# Altium schematic symbol library iuh-thuc-hanh.SchLib: 167 symbols
Pins are listed as number, name and electrical type; pins without a type are passive.

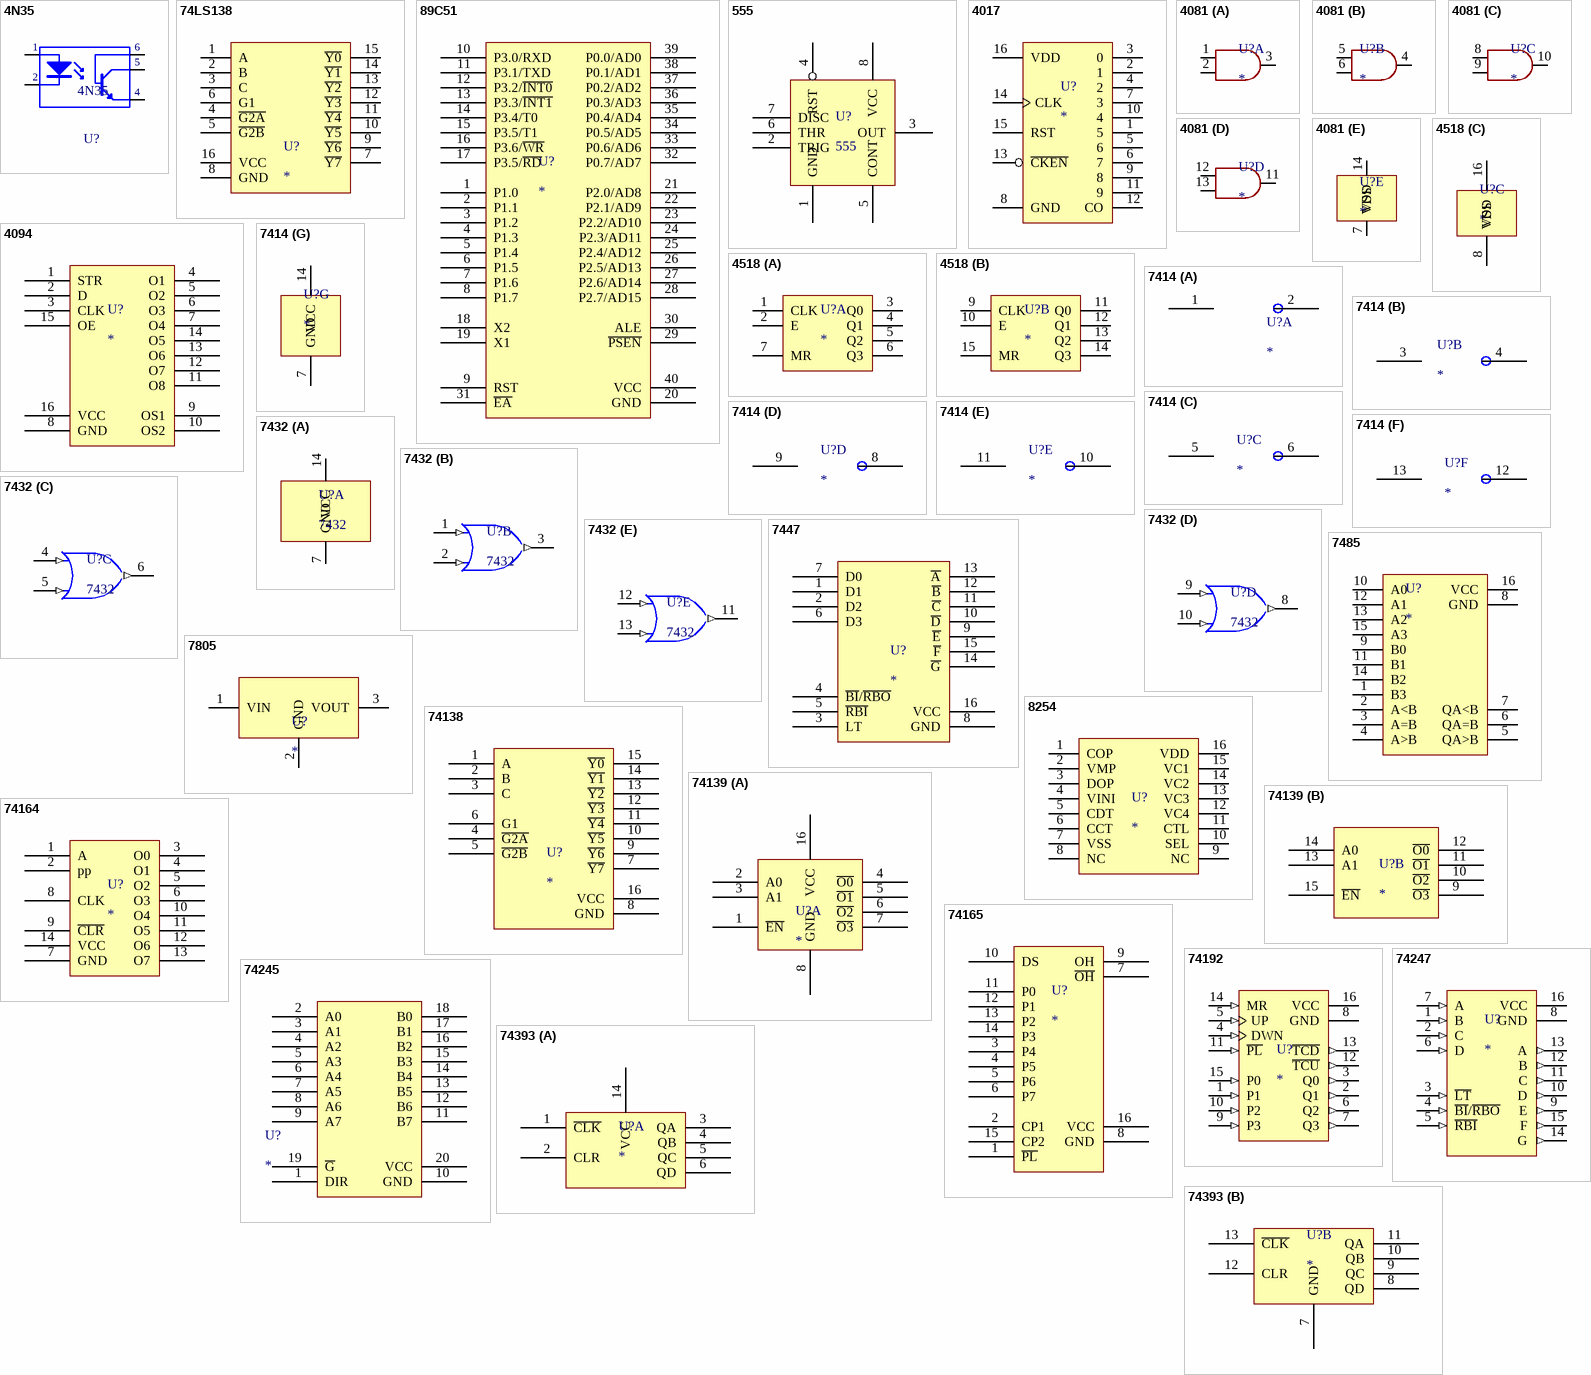
[diagram p0: symbols 4N35 to 74393]

## 4N35
designator U?
Single Opto; Value: MOC3021
footprint DIP6
footprint SO6
pins: 1 A "Anode", 2 K "Cathode", 4 E "Emitter", 5 C "Collector", 6 C "Collector"

## 74LS138
designator U?
footprint DIP16 (16 PIN, W 300mil, Pin to pin 100mil)
pins: 1 A, 2 B, 3 C, 4 ~{G2A}, 5 ~{G2B}, 6 G1, 7 ~{Y7}, 8 GND, 9 ~{Y6}, 10 ~{Y5}, 11 ~{Y4}, 12 ~{Y3}, 13 ~{Y2}, 14 ~{Y1}, 15 ~{Y0}, 16 VCC

## 89C51
designator U?
footprint DIP40/W0.6 (40 PIN, W 600mil, Pin to pin 100mil)
pins: 1 P1.0, 2 P1.1, 3 P1.2, 4 P1.3, 5 P1.4, 6 P1.5, 7 P1.6, 8 P1.7, 9 RST, 10 P3.0/RXD, 11 P3.1/TXD, 12 P3.2/~{INT0}, 13 P3.3/~{INT1}, 14 P3.4/T0, 15 P3.5/T1, 16 P3.6/~{WR}, 17 P3.5/~{RD}, 18 X2, 19 X1, 20 GND, 21 P2.0/AD8, 22 P2.1/AD9, 23 P2.2/AD10, 24 P2.3/AD11, 25 P2.4/AD12, 26 P2.5/AD13, 27 P2.6/AD14, 28 P2.7/AD15, 29 ~{PSEN}, 30 ALE, 31 ~{EA}, 32 P0.7/AD7, 33 P0.6/AD6, 34 P0.5/AD5, 35 P0.4/AD4, 36 P0.3/AD3, 37 P0.2/AD2, 38 P0.1/AD1, 39 P0.0/AD0, 40 VCC

## 555
designator U?
LM555; Manufacturer: National Semiconductor Corporation; ComponentLink1Description: Datasheet; ComponentLink1URL: https://datasheet.ciiva.com/19457/840579-19457377.pdf?src-supplier=Jameco
footprint DIP8 (8 PIN, Width 300mil, Pin to pin 100mil)
pins: 1 GND, 2 TRIG, 3 OUT, 4 RST, 5 CONT, 6 THR, 7 DISC, 8 VCC

## 4017
designator U?
footprint DIP16 (16 PIN, W 300mil, Pin to pin 100mil)
footprint SO16 (SOIC, 16-Leads, Body 9.90x3.91mm, Pitch 1.27mm, IPC Medium Density)
pins: 1 5, 2 1, 3 0, 4 2, 5 6, 6 7, 7 3, 8 GND, 9 8, 10 4, 11 9, 12 CO, 13 ~{CKEN}, 14 CLK, 15 RST, 16 VDD

## 4081
designator U?
AND LOGIC
footprint DIP14 (W.300/L.900)
part A pins: 1, 2, 3
part B pins: 4, 5, 6
part C pins: 8, 9, 10
part D pins: 11, 12, 13
part E pins: 7 VSS, 14 VDD

## 4094
designator U?
footprint DIP16 (16 PIN, W 300mil, Pin to pin 100mil)
pins: 1 STR, 2 D, 3 CLK, 4 O1, 5 O2, 6 O3, 7 O4, 8 GND, 9 OS1, 10 OS2, 11 O8, 12 O7, 13 O6, 14 O5, 15 OE, 16 VCC

## 4518
designator U?
footprint DIP16 (16 PIN, W 300mil, Pin to pin 100mil)
part A pins: 1 CLK, 2 E, 3 Q0, 4 Q1, 5 Q2, 6 Q3, 7 MR
part B pins: 9 CLK, 10 E, 11 Q0, 12 Q1, 13 Q2, 14 Q3, 15 MR
part C pins: 8 VSS, 16 VDD

## 7414
designator U?
footprint DIP14 (W.300/L.900)
part A pins: 1, 2
part B pins: 3, 4
part C pins: 5, 6
part D pins: 8, 9
part E pins: 10, 11
part F pins: 12, 13
part G pins: 7 GND, 14 VCC

## 7432
designator U?
OR logic
footprint DIP14 (W.300/L.900)
part A pins: 7 GND, 14 VCC
part B pins: 1 A (in), 2 B (in), 3 Y (out)
part C pins: 4 A (in), 5 B (in), 6 Y (out)
part D pins: 8 Y (out), 9 A (in), 10 B (in)
part E pins: 11 Y (out), 12 A (in), 13 B (in)

## 7447
designator U?
footprint DIP16 (16 PIN, W 300mil, Pin to pin 100mil)
pins: 1 D1, 2 D2, 3 LT, 4 ~{BI}/~{RBO}, 5 ~{RBI}, 6 D3, 7 D0, 8 GND, 9 ~{E}, 10 ~{D}, 11 ~{C}, 12 ~{B}, 13 ~{A}, 14 ~{G}, 15 ~{F}, 16 VCC

## 7485
designator U?
COMPARE IC
footprint DIP16 (16 PIN, W 300mil, Pin to pin 100mil)
pins: 1 B3, 2 A<B, 3 A=B, 4 A>B, 5 QA>B, 6 QA=B, 7 QA<B, 8 GND, 9 B0, 10 A0, 11 B1, 12 A1, 13 A2, 14 B2, 15 A3, 16 VCC

## 7805
designator U?
footprint TO220-123 (TO-220 - 1-2-3)
pins: 1 VIN, 2 GND, 3 VOUT

## 8254
designator U?
footprint S-8254
pins: 1 COP, 2 VMP, 3 DOP, 4 VINI, 5 CDT, 6 CCT, 7 VSS, 8 NC, 9 NC, 10 SEL, 11 CTL, 12 VC4, 13 VC3, 14 VC2, 15 VC1, 16 VDD

## 74138
designator U?
footprint DIP16 (16 PIN, W 300mil, Pin to pin 100mil)
pins: 1 A, 2 B, 3 C, 4 ~{G2A}, 5 ~{G2B}, 6 G1, 7 ~{Y7}, 8 GND, 9 ~{Y6}, 10 ~{Y5}, 11 ~{Y4}, 12 ~{Y3}, 13 ~{Y2}, 14 ~{Y1}, 15 ~{Y0}, 16 VCC

## 74139
designator U?
footprint DIP16 (16 PIN, W 300mil, Pin to pin 100mil)
part A pins: 1 ~{EN}, 2 A0, 3 A1, 4 ~{O0}, 5 ~{O1}, 6 ~{O2}, 7 ~{O3}, 8 GND, 16 VCC
part B pins: 9 ~{O3}, 10 ~{O2}, 11 ~{O1}, 12 ~{O0}, 13 A1, 14 A0, 15 ~{EN}

## 74164
designator U?
footprint DIP14 (W.300/L.900)
pins: 1 A, 2 pp, 3 O0, 4 O1, 5 O2, 6 O3, 7 GND, 8 CLK, 9 ~{CLR}, 10 O4, 11 O5, 12 O6, 13 O7, 14 VCC

## 74165
designator U?
footprint DIP16 (16 PIN, W 300mil, Pin to pin 100mil)
pins: 1 ~{PL}, 2 CP1, 3 P4, 4 P5, 5 P6, 6 P7, 7 ~{OH}, 8 GND, 9 OH, 10 DS, 11 P0, 12 P1, 13 P2, 14 P3, 15 CP2, 16 VCC

## 74192
designator U?
ComponentLink1Description: Datasheet; ComponentLink1URL: https://pdf1.alldatasheet.com/datasheet-pdf/view/5681/MOTOROLA/74LS192.html
footprint DIP16 (16 PIN, W 300mil, Pin to pin 100mil)
pins: 1 P1 (in), 2 Q1 (out), 3 Q0 (out), 4 DWN (in), 5 UP (in), 6 Q2 (out), 7 Q3 (out), 8 GND (power), 9 P3 (in), 10 P2 (in), 11 ~{PL} (in), 12 ~{TCU} (out), 13 ~{TCD} (out), 14 MR (in), 15 P0 (in), 16 VCC (oe)

## 74245
designator U?
footprint DIP20 (DIP 20, 20 PIN, W 300mil, Pin to pin 100mil)
pins: 1 DIR, 2 A0, 3 A1, 4 A2, 5 A3, 6 A4, 7 A5, 8 A6, 9 A7, 10 GND, 11 B7, 12 B6, 13 B5, 14 B4, 15 B3, 16 B2, 17 B1, 18 B0, 19 ~{G}, 20 VCC

## 74247
designator U?
footprint DIP16 (16 PIN, W 300mil, Pin to pin 100mil)
pins: 1 B (in), 2 C (in), 3 ~{LT} (in), 4 ~{BI}/~{RBO} (in), 5 ~{RBI} (in), 6 D (in), 7 A (in), 8 GND, 9 E (out), 10 D (out), 11 C (out), 12 B (out), 13 A (out), 14 G (out), 15 F (out), 16 VCC

## 74393
designator U?
footprint DIP14 (W.300/L.900)
part A pins: 1 ~{CLK}, 2 CLR, 3 QA, 4 QB, 5 QC, 6 QD, 14 VCC
part B pins: 7 GND, 8 QD, 9 QC, 10 QB, 11 QA, 12 CLR, 13 ~{CLK}

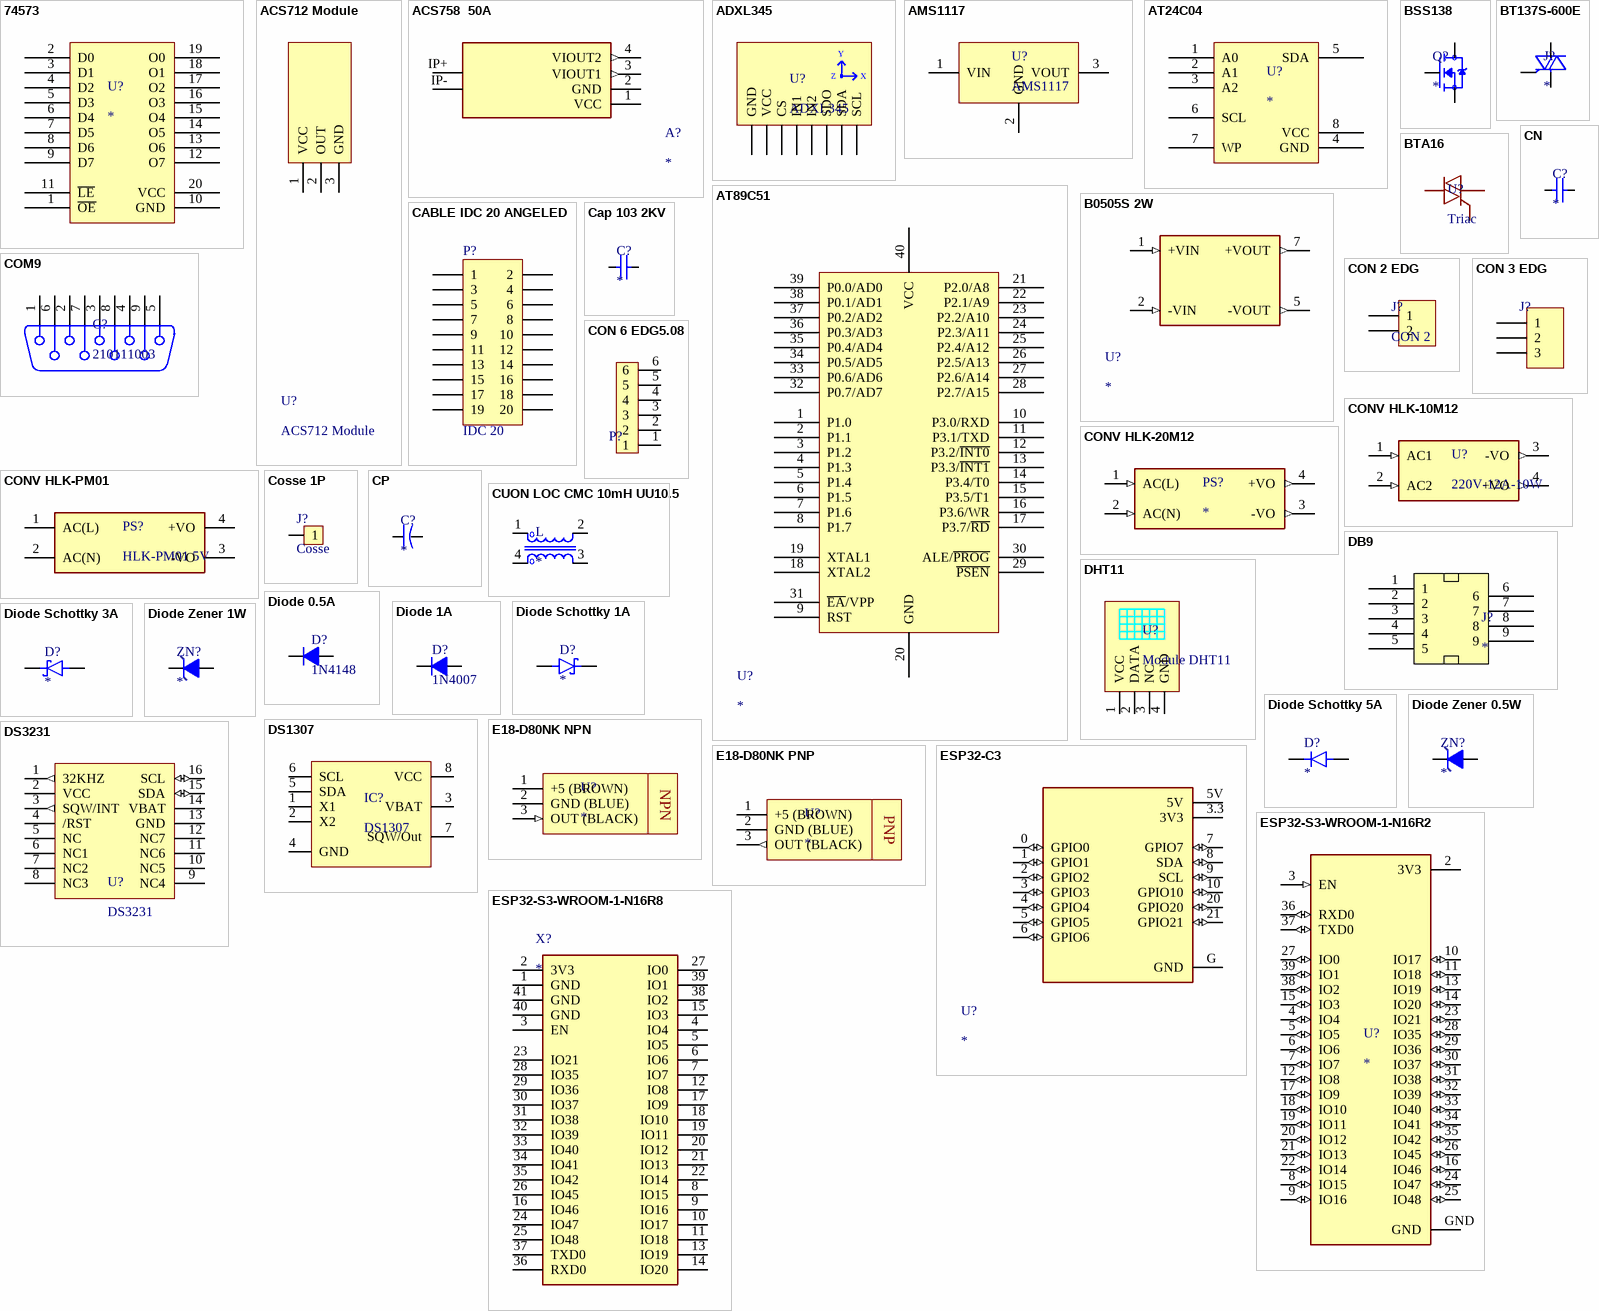
[diagram p1: symbols 74573 to ESP32-S3-WROOM-1-N16R8]

## 74573
designator U?
footprint DIP20 (DIP 20, 20 PIN, W 300mil, Pin to pin 100mil)
pins: 1 ~{OE}, 2 D0, 3 D1, 4 D2, 5 D3, 6 D4, 7 D5, 8 D6, 9 D7, 10 GND, 11 ~{LE}, 12 O7, 13 O6, 14 O5, 15 O4, 16 O3, 17 O2, 18 O1, 19 O0, 20 VCC

## ACS712 Module
designator U?
footprint ACS712 Module
pins: 1 VCC, 2 OUT, 3 GND

## ACS758  50A
designator A?
Current Sensor 50A 1 Channel Hall Effect, Open Loop Unidirectional 5-CB Formed Leads, PFF; MF: Allegro MicroSystems LLC; MP: ACS758LCB-100U-PFF-T; SnapEDA_Link: https://www.snapeda.com/parts/ACS758LCB-100U-PFF-T/Allegro+MicroSystems+LLC/view-part/?ref=snap; Package: 5-CB-5 Allegro MicroSystems LLC; Value: *; Check_prices: https://www.snapeda.com/parts/ACS758LCB-100U-PFF-T/Allegro+MicroSystems+LLC/view-part/?ref=eda
footprint ACS758LCB  50A
pins: 1 VCC (power), 2 GND (power), 3 VIOUT1 (out), 4 VIOUT2 (out), IP+ (power), IP- (power)

## ADXL345
designator U?
Module Cam bien gia toc
pins: 1 GND, 2 VCC, 3 CS, 4 IN1, 5 IN2, 6 SDO, 7 SDA, 8 SCL
text: Y; Z; X

## AMS1117
designator U?
footprint AMS1117-3v3
pins: 1 VIN, 2 GND, 3 VOUT

## AT24C04
designator U?
pins: 1 A0, 2 A1, 3 A2, 4 GND, 5 SDA, 6 SCL, 7 WP, 8 VCC

## AT89C51
designator U?
pins: 1 P1.0, 2 P1.1, 3 P1.2, 4 P1.3, 5 P1.4, 6 P1.5, 7 P1.6, 8 P1.7, 9 RST, 10 P3.0/RXD, 11 P3.1/TXD, 12 P3.2/~{INT0}, 13 P3.3/~{INT1}, 14 P3.4/T0, 15 P3.5/T1, 16 P3.6/WR, 17 P3.7/~{RD}, 18 XTAL2, 19 XTAL1, 20 GND, 21 P2.0/A8, 22 P2.1/A9, 23 P2.2/A10, 24 P2.3/A11, 25 P2.4/A12, 26 P2.5/A13, 27 P2.6/A14, 28 P2.7/A15, 29 ~{PSEN}, 30 ALE/~{PROG}, 31 ~{EA}/VPP, 32 P0.7/AD7, 33 P0.6/AD6, 34 P0.5/AD5, 35 P0.4/AD4, 36 P0.3/AD3, 37 P0.2/AD2, 38 P0.1/AD1, 39 P0.0/AD0, 40 VCC

## B0505S 2W
designator U?
footprint CONV_RKZ-0505S 2W
pins: 1 +VIN (in), 2 -VIN (in), 5 -VOUT (out), 7 +VOUT (out)

## BSS138
designator Q?
N-Channel 50 V 220mA (Ta) 350mW (Ta) Surface Mount SOT-23-3; MF: onsemi; MP: BSS138; SnapEDA_Link: https://www.snapeda.com/parts/BSS138/Onsemi/view-part/?ref=snap; Package: SOT-23-3 ON Semiconductor; Value: *; Check_prices: https://www.snapeda.com/parts/BSS138/Onsemi/view-part/?ref=eda
footprint SOT23-132
pins: 1 G, 2 S, 3 D

## BT137S-600E
designator J?
TRIAC Logic - Sensitive Gate 600 V 8 A Surface Mount DPAK; MF: WeEn Semiconductors; MP: BT137S-600E; SnapEDA_Link: https://www.snapeda.com/parts/BT137S-600E/WeEn+Semiconductors/view-part/?ref=snap; Package: None; Value: *; Check_prices: https://www.snapeda.com/parts/BT137S-600E/WeEn+Semiconductors/view-part/?ref=eda
footprint TO229P994X240-3N
pins: 1 A1, 2 A2, 3 G

## BTA16
designator U?, comment Triac
BTA16-800BRG TRIAC 800V 16A TO-220
footprint TO220H2 (TO-220 - 1-2-3)
footprint TO220H4 (TO-220 - 1-2-3)
pins: 1 T1, 2 T2, 3 G

## CABLE IDC 20 ANGELED
designator P?, comment IDC 20
Header, 10-Pin, Dual row; LatestRevisionDate: 17-Jul-2002; LatestRevisionNote: Re-released for DXP Platform.; Publisher: Altium Limited
footprint CABLE IDC 20 ANGELED (Connector; Header; 5x2 Position)
pins: 1, 2, 3, 4, 5, 6, 7, 8, 9, 10, 11, 12, 13, 14, 15, 16, 17, 18, 19, 20

## Cap 103 2KV
designator C?
Capacitor Ceramic 2KV
footprint Cap 7.5mm
pins: 1, 2

## CN
designator C?
Capacitor
footprint Cap 7.5mm
footprint Cap 2.54mm
footprint Cap 3.81mm
footprint Cap 5.08mm
footprint Cap 6.35mm (Tu pin to pin 250mil)
footprint Cap 10mm (Cap np W 0.4)
footprint Cap 15mm
footprint Cap 15mm CBB
footprint Cap 22.5mm
footprint cap 0603
footprint cap 0805
pins: 1, 2

## COM9
designator C?, comment 210111003
DB9 RS232 D-SUB-Filter Connectors WE-DS, Solder Pin Straight; Manufacturer: Würth Elektronik eiSos GmbH; partNo: 210111003; ComponentLink1Description: Manufacturer; ComponentLink1URL: http://www.we-online.de; Created by: Christin Zierenner; Created Date: May 2012; ComponentLink2Description: Datasheet; ComponentLink2URL: http://katalog.we-online.de/kataloge/eisos/index.php?language=en&pf=Filter_gerade
footprint COM9A (D-SUB- 9P, MALE, RT ANGLE, TH)
footprint COM9C (D-SUB- 9P, MALE, SOLDER BUCKET VERTICAL MOUNT, TH)
footprint COM9SMDA (D-SUB- 9P, MALE, RT ANGLE, SMT)
pins: 1, 2, 3, 4, 5, 6, 7, 8, 9

## CON 2 EDG
designator J?, comment CON 2
CON2 KF terminal
footprint Con 2 KF301 5.08
footprint CON 2 KF142 5.08 CONG
footprint CON 2 HB9500 (Header 2: 300V-20A, 2 pin, hight 300mil, Pin to Pin 400, Colour Green)
footprint CON 2 KF7.62
footprint KF2-3.5 (3,50mm - modular - blue - Horizontal wire entry - Pressure clamp - 8,4mm height - 02p)
footprint KF2-7.62
footprint CON 2 HT3.96
footprint CON 2 2EDG5.08
footprint CON 2 2EDG5.08 B
pins: 1, 2

## CON 3 EDG
designator J?
CON3 KF terminal
footprint CON 3 2EDG5.08
footprint CON 3 2EDG5.08 B
footprint KF3-3.96 (3,96mm - modular - green - Horizontal wire entry - Pressure clamp - 10mm height - 03p)
footprint KF3-3.5 (3,50mm - modular - blue - Horizontal wire entry - Pressure clamp - 8,4mm height - 03p)
footprint KF3-3.96-T1 (3,96mm - modular - blue - Horizontal wire entry - Pressure clamp - 10mm height - 03p)
footprint KF3-5.08
footprint KF3-5.08T (Header 3, 3 pin, hight 300mil, Pin to Pin 200, Colour Green)
footprint KF3-7.62
footprint KF3-8.5
footprint KF3-10 (Serie 1368 - 10.00 mm _ 3 pins)
pins: 1, 2, 3

## CON 6 EDG5.08
designator P?, comment CON6  (value not drawn)
Ten_Linh_Kien: CON 8 2EDG5.08-8P 5.08MM ( Xanh Cong); Don_Vi: Con; Ma_Hang: MH000978; Chung_Loai: Cắm; Ghi_Chu: *; Kieu_Chan: *
footprint CON 6 6EDG5.08
pins: 1, 2, 3, 4, 5, 6

## CONV HLK-10M12
designator U?, comment 220V-12A-10W
footprint CONV_HLK-10M12
pins: 1 AC1 (in), 2 AC2 (in), 3 -VO (out), 4 +VO (out)

## CONV HLK-20M12
designator PS?
20W ultra-small series module power supply; MF: Hi-link; MP: HLK-20M12; Check_prices: https://www.snapeda.com/parts/HLK-20M12/Hi-link/view-part/?ref=eda; SnapEDA_Link: https://www.snapeda.com/parts/HLK-20M12/Hi-link/view-part/?ref=snap; Availability: Not in stock; Price: None; Value: *; Package: Non-Standard Hi-link
footprint CONV_HLK-20W
pins: 1 AC(L) (in), 2 AC(N) (in), 3 -VO (out), 4 +VO (out)

## CONV HLK-PM01
designator PS?, comment HLK-PM01 5V
220VAC to 5V
footprint CONV_HLK-10W
footprint CONV_HLK-5M05-5W
footprint CONV_HLK-PM01-3W
footprint CONV_HLK-20W
pins: 1 AC(L) (power), 2 AC(N) (power), 3 -VO (power), 4 +VO (power)

## Cosse 1P
designator J?, comment Cosse
footprint Cosse 6.3
pins: 1

## CP
designator C?
Capacitor
footprint Cap Tantalum (Capacitor;TantalumCap 22 uF)
footprint Cap Aluminum
footprint Cap alum SMD
pins: 1, 2

## CUON LOC CMC 10mH UU10.5
designator L
Common Mode Chokes 10mH UU10.5; MP: BU9-103R25BL; MF: Boca Semiconductor; Package: None; SnapEDA_Link: https://www.snapeda.com/parts/BU9-103R25BL/Boca%20Semiconductor/view-part/2767297/?ref=snap; Value: *; Availability: Unavailable; Price: None; VN_link: https://linhkienchatluong.vn/cac-loai-khac/cuon-loc-10mh-08mm-uu16-22x26x19mm_sp925_ct9256.aspx
footprint CMC UU10.5
pins: 1, 2, 3, 4

## DB9
designator J?
pins: 1, 2, 3, 4, 5, 6, 7, 8, 9

## DHT11
designator U?, comment Module DHT11
footprint DHT11 (Mdule DHT11)
pins: 1 VCC, 2 DATA, 3 NC, 4 GND

## Diode 0.5A
designator D?, comment 1N4148
Diode 0.5A 1N4148 DO-35
footprint DO-35 (Diode 0.5A)
footprint DO-35 Axial (Diode 0.5A Axial)
pins: 1 A, 2 K

## Diode 1A
designator D?, comment 1N4007
Diode 1A 1N4007 DO-41
footprint DO-41 (Diode 1A)
footprint DO-41 Axial (Diode 1A Axial)
footprint DO-214AC
pins: 1 A, 2 K

## Diode Schottky 1A
designator D?
Diode Schottky 20 V 1A Through Hole DO-41; MF: Diodes Inc.; MP: 1N5817-T; Package: DO-41 Diodes Inc.; Price: None; Check_prices: https://www.snapeda.com/parts/1N5817-T/Diodes+Inc./view-part/?ref=eda; Value: *; SnapEDA_Link: https://www.snapeda.com/parts/1N5817-T/Diodes+Inc./view-part/?ref=snap; Availability: In Stock; Purchase-URL: https://pricing.snapeda.com/search/part/1N5817-T/?ref=eda
footprint DO-41 SK 20V/1A (Diode Schottky 20V 1A)
pins: 1 K, 2 A

## Diode Schottky 3A
designator D?
1N5822; MF: Diodes Inc.; MP: 1N5817-T; Package: DO-41 Diodes Inc.; Price: None; Check_prices: https://www.snapeda.com/parts/1N5817-T/Diodes+Inc./view-part/?ref=eda; Value: *; SnapEDA_Link: https://www.snapeda.com/parts/1N5817-T/Diodes+Inc./view-part/?ref=snap; Availability: In Stock; Purchase-URL: https://pricing.snapeda.com/search/part/1N5817-T/?ref=eda
footprint 1N5822
footprint SS34
pins: 1 K, 2 A

## Diode Schottky 5A
designator D?
1N5824; MF: Microsemi Corporation; Value: *; SnapEDA_Link: https://www.snapeda.com/parts/1N5824/Microsemi%20Corporation/view-part/49055/?ref=snap; MP: 1N5824; Availability: Unavailable; Price: None; Package: Axial Microsemi
footprint 1N5824
pins: 1 A, 2 K

## Diode Zener 0.5W
designator ZN?
footprint DO-35 (Diode 0.5A)
footprint DO-35 Axial (Diode 0.5A Axial)
footprint SOD-323 (Zener Diodes ZENER SOD-323 .55W 3.3V)
footprint SOD-123 (Diode Zener 3.3V 6% 500mW 2Pin SOD123)
pins: 1 A, 2 K

## Diode Zener 1W
designator ZN?
footprint DO-41 (Diode 1A)
footprint DO-41 Axial (Diode 1A Axial)
pins: 1 A, 2 K

## DS1307
designator IC?
DS1307RTC
footprint DS1307 (DS1307RTC)
footprint DIP8 (8 PIN, Width 300mil, Pin to pin 100mil)
pins: 1 X1, 2 X2, 3 VBAT, 4 GND, 5 SDA, 6 SCL, 7 SQW/Out, 8 VCC

## DS3231
designator U?
footprint DS3231 (DIP16)
pins: 1 32KHZ (out), 2 VCC (power), 3 SQW/INT (out), 4 /RST, 5 NC, 6 NC1, 7 NC2, 8 NC3, 9 NC4, 10 NC5, 11 NC6, 12 NC7, 13 GND (power), 14 VBAT (power), 15 SDA (io), 16 SCL (io)

## E18-D80NK NPN
designator U?
footprint E18-D80NK (Cam bien khoang cach hong ngoai)
pins: 1 +5 (BROWN), 2 GND (BLUE), 3 OUT (BLACK) (in)
text: NPN

## E18-D80NK PNP
designator U?
footprint E18-D80NK (Cam bien khoang cach hong ngoai)
pins: 1 +5 (BROWN), 2 GND (BLUE), 3 OUT (BLACK) (out)
text: PNP

## ESP32-C3
designator U?
footprint ESP32-C3-PCP
footprint ESP32-C3-SMD
pins: 0 GPIO0 (io), 1 GPIO1 (io), 2 GPIO2 (io), 3 GPIO3 (io), 3.3 3V3 (power), 4 GPIO4 (io), 5 GPIO5 (io), 5V (power), 6 GPIO6 (io), 7 GPIO7 (io), 8 SDA (io), 9 SCL (io), 10 GPIO10 (io), 20 GPIO20 (io), 21 GPIO21 (io), G GND (power)

## ESP32-S3-WROOM-1-N16R2
designator U?
Bluetooth, WiFi 802.11b/g/n, Bluetooth v5.0 Transceiver Module 2.4GHz PCB Trace Surface Mount; MF: Espressif Systems; MP: ESP32S3WROOM1N16R2; SnapEDA_Link: https://www.snapeda.com/parts/ESP32S3WROOM1N16R2/Espressif+Systems/view-part/?ref=snap; Package: NON STANDARD Espressif Systems; Value: *; Check_prices: https://www.snapeda.com/parts/ESP32S3WROOM1N16R2/Espressif+Systems/view-part/?ref=eda
footprint XCVR_ESP32-S3-WROOM-1-N16R2
pins: 2 3V3 (power), 3 EN (in), 4 IO4 (io), 5 IO5 (io), 6 IO6 (io), 7 IO7 (io), 8 IO15 (io), 9 IO16 (io), 10 IO17 (io), 11 IO18 (io), 12 IO8 (io), 13 IO19 (io), 14 IO20 (io), 15 IO3 (io), 16 IO46 (io), 17 IO9 (io), 18 IO10 (io), 19 IO11 (io), 20 IO12 (io), 21 IO13 (io), 22 IO14 (io), 23 IO21 (io), 24 IO47 (io), 25 IO48 (io), 26 IO45 (io), 27 IO0 (io), 28 IO35 (io), 29 IO36 (io), 30 IO37 (io), 31 IO38 (io), 32 IO39 (io), 33 IO40 (io), 34 IO41 (io), 35 IO42 (io), 36 RXD0 (io), 37 TXD0 (io), 38 IO2 (io), 39 IO1 (io), GND (power)

## ESP32-S3-WROOM-1-N16R8
designator X?
Bluetooth, WiFi 802.11b/g/n, Bluetooth v5.0 Transceiver Module 2.4GHz PCB Trace Surface Mount; MF: Espressif Systems; MP: ESP32-S3-WROOM-1-N16R8; SnapEDA_Link: https://www.snapeda.com/parts/ESP32-S3-WROOM-1-N16R8/Espressif+Systems/view-part/?ref=snap; Package: NON STANDARD Espressif Systems; Value: *; Check_prices: https://www.snapeda.com/parts/ESP32-S3-WROOM-1-N16R8/Espressif+Systems/view-part/?ref=eda
footprint ESP32S3WROOM1N8R2
pins: 1 GND, 2 3V3, 3 EN, 4 IO4, 5 IO5, 6 IO6, 7 IO7, 8 IO15, 9 IO16, 10 IO17, 11 IO18, 12 IO8, 13 IO19, 14 IO20, 15 IO3, 16 IO46, 17 IO9, 18 IO10, 19 IO11, 20 IO12, 21 IO13, 22 IO14, 23 IO21, 24 IO47, 25 IO48, 26 IO45, 27 IO0, 28 IO35, 29 IO36, 30 IO37, 31 IO38, 32 IO39, 33 IO40, 34 IO41, 35 IO42, 36 RXD0, 37 TXD0, 38 IO2, 39 IO1, 40 GND, 41 GND

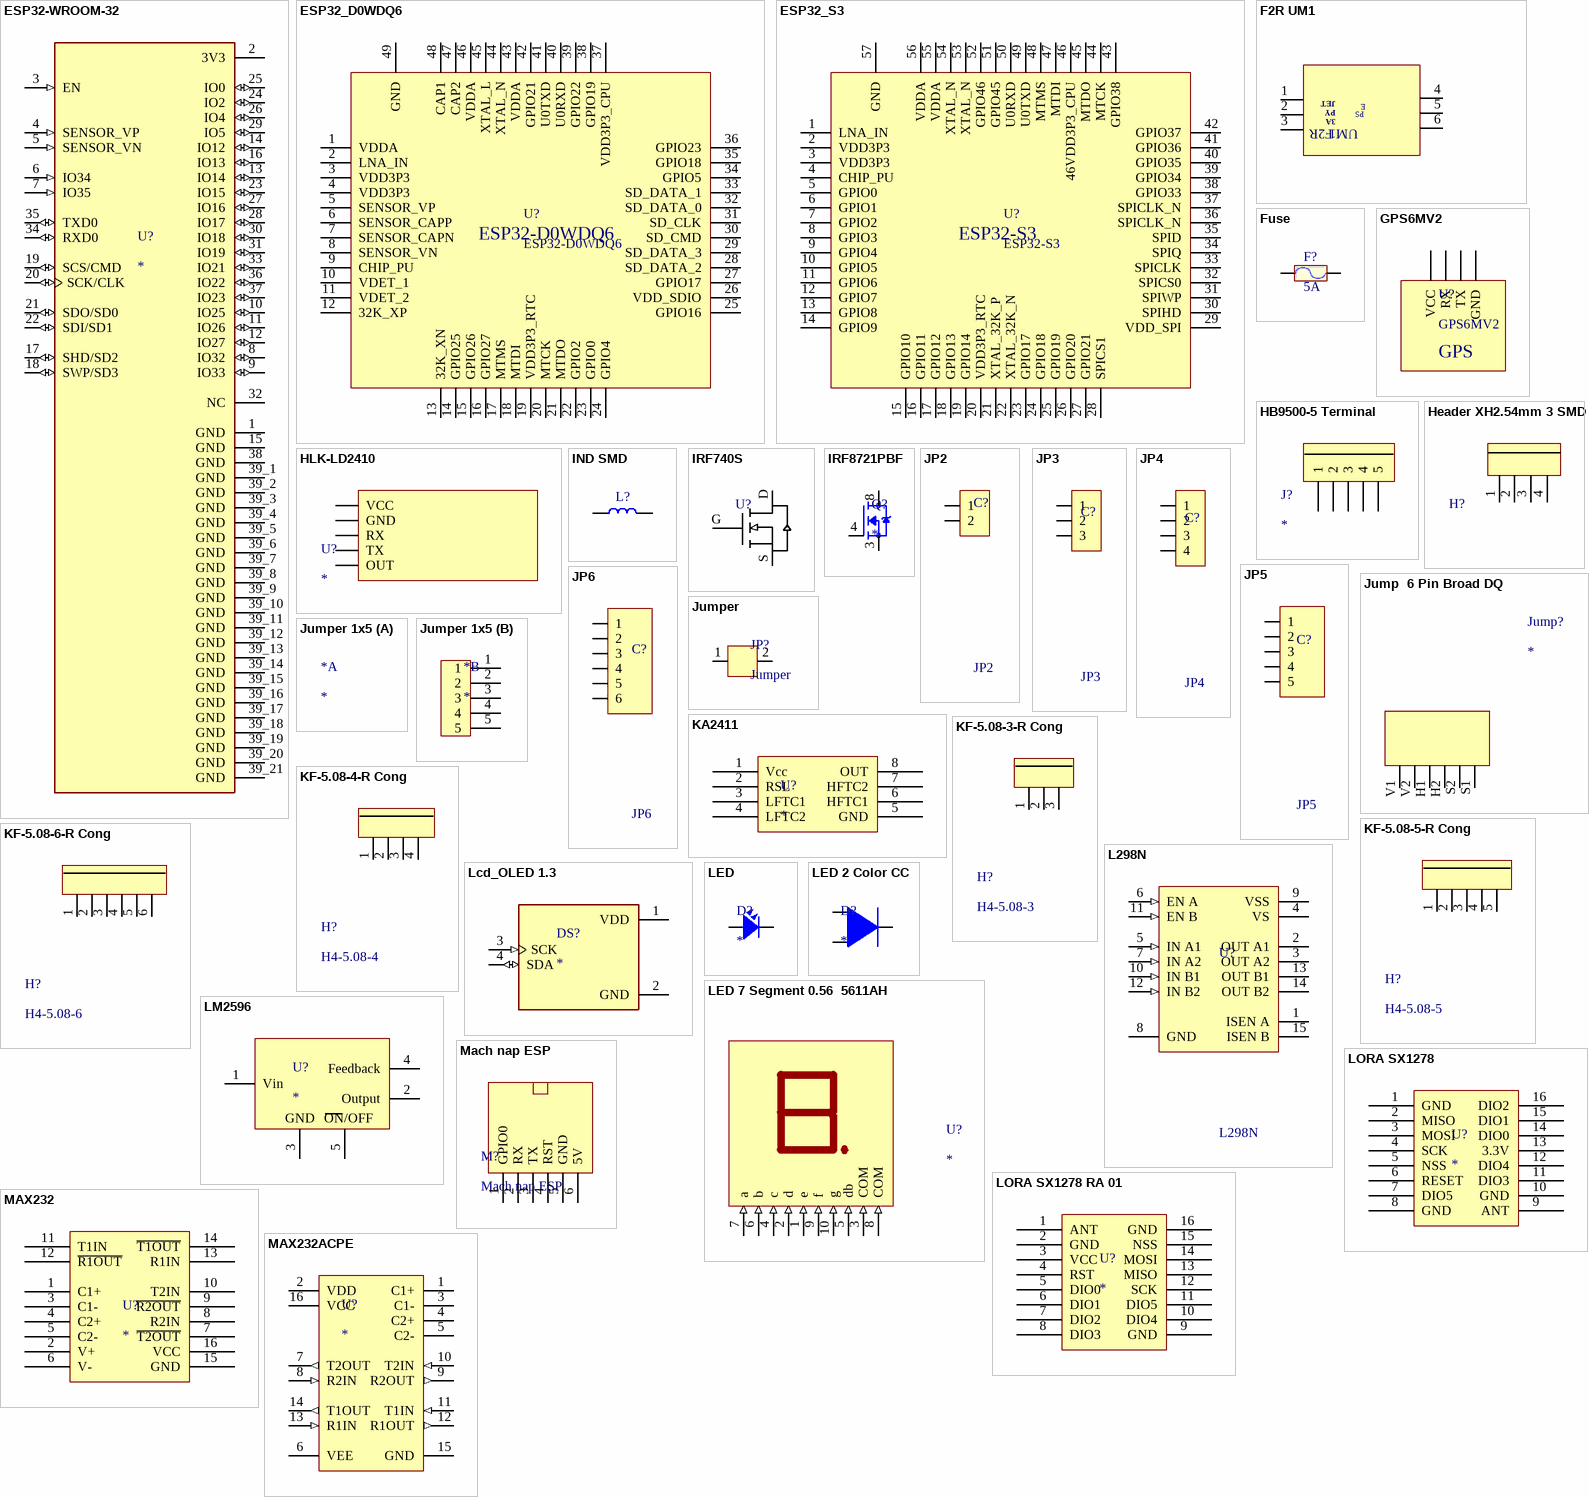
[diagram p2: symbols ESP32-WROOM-32 to MAX232ACPE]

## ESP32-WROOM-32
designator U?
Bluetooth, WiFi 802.11b/g/n, Bluetooth v4.2 +EDR, Class 1, 2 and 3 Transceiver Module 2.4GHz ~ 2.5GHz Antenna Not Included, U.FL Surface Mount; MP: ESP32-WROOM-32; MF: Espressif Systems; Price: None; Availability: In Stock; Package: Module Espressif Systems; SnapEDA_Link: https://www.snapeda.com/parts/ESP32-WROOM-32/Espressif+Systems/view-part/?ref=snap; Check_prices: https://www.snapeda.com/parts/ESP32-WROOM-32/Espressif+Systems/view-part/?ref=eda; Value: *; Purchase-URL: https://pricing.snapeda.com/search/part/ESP32-WROOM-32/?ref=eda
footprint MODULE_ESP32-WROOM-32
pins: 1 GND (power), 2 3V3 (power), 3 EN (in), 4 SENSOR_VP (in), 5 SENSOR_VN (in), 6 IO34 (in), 7 IO35 (in), 8 IO32 (io), 9 IO33 (io), 10 IO25 (io), 11 IO26 (io), 12 IO27 (io), 13 IO14 (io), 14 IO12 (io), 15 GND (power), 16 IO13 (io), 17 SHD/SD2 (io), 18 SWP/SD3 (io), 19 SCS/CMD (io), 20 SCK/CLK (io), 21 SDO/SD0 (io), 22 SDI/SD1 (io), 23 IO15 (io), 24 IO2 (io), 25 IO0 (io), 26 IO4 (io), 27 IO16 (io), 28 IO17 (io), 29 IO5 (io), 30 IO18 (io), 31 IO19 (io), 32 NC, 33 IO21 (io), 34 RXD0 (io), 35 TXD0 (io), 36 IO22 (io), 37 IO23 (io), 38 GND (power), 39_1 GND (power), 39_2 GND (power), 39_3 GND (power), 39_4 GND (power), 39_5 GND (power), 39_6 GND (power), 39_7 GND (power), 39_8 GND (power), 39_9 GND (power), 39_10 GND (power), 39_11 GND (power), 39_12 GND (power), 39_13 GND (power), 39_14 GND (power), 39_15 GND (power), 39_16 GND (power), 39_17 GND (power), 39_18 GND (power), 39_19 GND (power), 39_20 GND (power), 39_21 GND (power)

## ESP32_D0WDQ6
designator U?, comment ESP32-D0WDQ6
ESP32_D0WDQ6
footprint ESP32 D0WDQ6
pins: 1 VDDA, 2 LNA_IN, 3 VDD3P3, 4 VDD3P3, 5 SENSOR_VP, 6 SENSOR_CAPP, 7 SENSOR_CAPN, 8 SENSOR_VN, 9 CHIP_PU, 10 VDET_1, 11 VDET_2, 12 32K_XP, 13 32K_XN, 14 GPIO25, 15 GPIO26, 16 GPIO27, 17 MTMS, 18 MTDI, 19 VDD3P3_RTC, 20 MTCK, 21 MTDO, 22 GPIO2, 23 GPIO0, 24 GPIO4, 25 GPIO16, 26 VDD_SDIO, 27 GPIO17, 28 SD_DATA_2, 29 SD_DATA_3, 30 SD_CMD, 31 SD_CLK, 32 SD_DATA_0, 33 SD_DATA_1, 34 GPIO5, 35 GPIO18, 36 GPIO23, 37 VDD3P3_CPU, 38 GPIO19, 39 GPIO22, 40 U0RXD, 41 U0TXD, 42 GPIO21, 43 VDDA, 44 XTAL_N, 45 XTAL_L, 46 VDDA, 47 CAP2, 48 CAP1, 49 GND

## ESP32_S3
designator U?, comment ESP32-S3
ESP32_S3
footprint ESP32-S3
pins: 1 LNA_IN, 2 VDD3P3, 3 VDD3P3, 4 CHIP_PU, 5 GPIO0, 6 GPIO1, 7 GPIO2, 8 GPIO3, 9 GPIO4, 10 GPIO5, 11 GPIO6, 12 GPIO7, 13 GPIO8, 14 GPIO9, 15 GPIO10, 16 GPIO11, 17 GPIO12, 18 GPIO13, 19 GPIO14, 20 VDD3P3_RTC, 21 XTAL_32K_P, 22 XTAL_32K_N, 23 GPIO17, 24 GPIO18, 25 GPIO19, 26 GPIO20, 27 GPIO21, 28 SPICS1, 29 VDD_SPI, 30 SPIHD, 31 SPIWP, 32 SPICS0, 33 SPICLK, 34 SPIQ, 35 SPID, 36 SPICLK_N, 37 SPICLK_N, 38 GPIO33, 39 GPIO34, 40 GPIO35, 41 GPIO36, 42 GPIO37, 43 GPIO38, 44 MTCK, 45 MTDO, 46 46VDD3P3_CPU, 47 MTDI, 48 MTMS, 49 U0TXD, 50 U0RXD, 51 GPIO45, 52 GPIO46, 53 XTAL_N, 54 XTAL_N, 55 VDDA, 56 VDDA, 57 GND

## F2R UM1
designator *
footprint F2R UM1
pins: 1 Fin, 2 Fin, 3 Fin, 4 FOUT, 5 FOUT, 6 FOUT
text: JET; E; PY; PS; 3A; F2R; UM1

## Fuse
designator F?, comment 5A
Fuse; Designed by: VanDungEvn; Value: Fuse
footprint Fuse 520 (5x20mm d=28mm)
footprint Fuse vertical (d=5mm)
footprint FUSE HOLDER 520 (De Fuse)
footprint Fuse rectangular (5.08 0.6)
pins: 1, 2

## GPS6MV2
designator U?
Module GPS
pins: 1 VCC, 2 RX, 3 TX, 4 GND
text: GPS

## HB9500-5 Terminal
designator J?
footprint CON 5 HB9500-5 (Header 2: 300V-20A, 5 pin, hight 300mil, Pin to Pin 400, Colour Green)
pins: 1, 2, 3, 4, 5

## Header XH2.54mm 3 SMD
designator H?
footprint XH2.54-3-SMD Connector
pins: 1, 2, 3, 4

## HLK-LD2410
designator U?
HLK-LD2410B-P Cam bien hien dien
footprint HLK-LD2410
pins: 1 OUT, 2 TX, 3 RX, 4 GND, 5 VCC

## IND SMD
designator L?
footprint IND_0402
footprint IND_0603
footprint IND_0805
footprint IND_1206
footprint IND_1210
footprint IND 5D28_5832 (Cu?n C?m Dán SMD 5D28 5832-100 10uH 1.3A)
footprint IND CD43_4532
pins: 1, 2

## IRF740S
designator U?
MOSFET channel N 400V 10A
footprint TO263-3-2
pins: D "0", G, S

## IRF8721PBF
designator Q?
MOSFET, N Ch., 30V, 14A, 8.5 MOHM, 8.3 NC QG, SO-8, Pb-Free | Infineon IRF8721PBF; SnapEDA_Link: https://www.snapeda.com/parts/IRF8721PBF/Infineon/view-part/?ref=snap; Package: SOIC-8 Infineon; Value: *; MF: Infineon; MP: IRF8721PBF; Check_prices: https://www.snapeda.com/parts/IRF8721PBF/Infineon/view-part/?ref=eda
footprint SOIC127P600X175-8N
pins: 1 S, 2 S, 3 S, 4 G, 5 D, 6 D, 7 D, 8 D

## JP2
designator C?
WR-PHD 2.54 mm Angled Socket Header; Manufacturer: W¨¹rth Elektronik eiSos GmbH; partNo: 613002143121; ComponentLink1 Description: Manufacturer; ComponentLink2 Description: Datasheet; NoPins: 02; Created Date: 29 March 2013; ComponentLink1URL: http://www.we-online.com; ComponentLink2URL: http://katalog.we-online.de/em/datasheet/6130xx143121.pdf; Created by: Karrer Zheng
footprint JP2-SMD-2.54
pins: 1, 2

## JP3
designator C?
WR-PHD 2.54 mm Angled Socket Header; Manufacturer: W¨¹rth Elektronik eiSos GmbH; partNo: 613003143121; ComponentLink1 Description: Manufacturer; ComponentLink2 Description: Datasheet; NoPins: 03; Created Date: 29 March 2013; ComponentLink1URL: http://www.we-online.com; ComponentLink2URL: http://katalog.we-online.de/em/datasheet/6130xx143121.pdf; Created by: Karrer Zheng
footprint JP3-SMD-2.54
pins: 1, 2, 3

## JP4
designator C?
WR-PHD 2.54 mm Angled Socket Header; Manufacturer: W¨¹rth Elektronik eiSos GmbH; partNo: 613004143121; ComponentLink1 Description: Manufacturer; ComponentLink2 Description: Datasheet; NoPins: 04; Created Date: 29 March 2013; ComponentLink1URL: http://www.we-online.com; ComponentLink2URL: http://katalog.we-online.de/em/datasheet/6130xx143121.pdf; Created by: Karrer Zheng
footprint JP4-SMD-2.54
pins: 1, 2, 3, 4

## JP5
designator C?
WR-PHD 2.54 mm Angled Socket Header; Manufacturer: W¨¹rth Elektronik eiSos GmbH; partNo: 613005143121; ComponentLink1 Description: Manufacturer; ComponentLink2 Description: Datasheet; NoPins: 05; Created Date: 29 March 2013; ComponentLink1URL: http://www.we-online.com; ComponentLink2URL: http://katalog.we-online.de/em/datasheet/6130xx143121.pdf; Created by: Karrer Zheng
footprint JP5-SMD-2.54
pins: 1, 2, 3, 4, 5

## JP6
designator C?
WR-PHD 2.54 mm Angled Socket Header; Manufacturer: W¨¹rth Elektronik eiSos GmbH; partNo: 613006143121; ComponentLink1 Description: Manufacturer; ComponentLink2 Description: Datasheet; NoPins: 06; Created Date: 29 March 2013; ComponentLink1URL: http://www.we-online.com; ComponentLink2URL: http://katalog.we-online.de/em/datasheet/6130xx143121.pdf; Created by: Karrer Zheng
footprint JP6-SMD-2.54
pins: 1, 2, 3, 4, 5, 6

## Jump  6 Pin Broad DQ
designator Jump?
footprint Jump 6 pin DQ
pins: H1, H2, S1, S2, V1, V2

## Jumper
designator JP?
jump 2.54 jump 5.08
footprint Jumper 5.08
pins: 1, 2

## Jumper 1x5
designator *
footprint Jumper 1x5mm (Jumper 1x5-2.54mm)
part B pins: 1, 2, 3, 4, 5

## KA2411
designator U?
footprint DIP8 (8 PIN, Width 300mil, Pin to pin 100mil)
pins: 1 Vcc, 2 RSL, 3 LFTC1, 4 LFTC2, 5 GND, 6 HFTC1, 7 HFTC2, 8 OUT

## KF-5.08-3-R Cong
designator H?, comment H4-5.08-3
footprint KF-5.08-3
pins: 1, 2, 3

## KF-5.08-4-R Cong
designator H?, comment H4-5.08-4
footprint KF-5.08-4
pins: 1, 2, 3, 4

## KF-5.08-5-R Cong
designator H?, comment H4-5.08-5
footprint KF-5.08-5
pins: 1, 2, 3, 4, 5

## KF-5.08-6-R Cong
designator H?, comment H4-5.08-6
pins: 1, 2, 3, 4, 5, 6

## L298N
designator U?
Dual Full-H Driver; Note: The tab is elec is connected to GND pin; Published: 15-May-2002; DatasheetVersion: Jun-1990; PackageReference: KV015; Publisher: Altium Limited; PackageDescription: TO, Thru-Hole, Vertical, Heatsink Mounted; 15 Bent Staggered Leads; Pitch 1.27 mm; ComponentLink1Description: Manufacturer Link; ComponentLink1URL: http://www.ti.com/
footprint DIP15SL2
footprint DIP15SL2-T
pins: 1 ISEN A, 2 OUT A1 (hiz), 3 OUT A2 (hiz), 4 VS (power), 5 IN A1 (in), 6 EN A (in), 7 IN A2 (in), 8 GND (power), 9 VSS (power), 10 IN B1 (in), 11 EN B (in), 12 IN B2 (in), 13 OUT B1 (hiz), 14 OUT B2 (hiz), 15 ISEN B

## Lcd_OLED 1.3
designator DS?
I2C-128x64-3.3~5V
footprint OLED 1.3_V2 (1-GND_1.3inch)
footprint OLED 1.3_V1 (1-VCC_1.3inch)
footprint OLED 1.3_V3
pins: 1 VDD (power), 2 GND (power), 3 SCK (in), 4 SDA (io)

## LED
designator D?
footprint LED-5MM-RED (LED 2 PIN, 5mm, Only colour,pin to pin 100mil)
footprint LED-0805
footprint LED-1206
pins: 1, 2

## LED 2 Color CC
designator D?
LED 2 color Common Cathode
footprint LED RB-RG 3MM
pins: 1, 2, 3

## LED 7 Segment 0.56  5611AH
designator U?
5611AH Anode chung
footprint LED7SEG-0.56
pins: 1 e (in), 2 d (in), 3 COM (in), 4 c (in), 5 db (in), 6 b (in), 7 a (in), 8 COM (in), 9 f (in), 10 g (in)

## LM2596
designator U?
footprint LM2596T- 5.0 (SIMPLE SWITCHER® 4.5V to 40V, 3A Low Component Count Step-Down Regulator 5-TO-220)
footprint LM2596-SMD
pins: 1 Vin, 2 Output, 3 GND, 4 Feedback, 5 ~{ON}/OFF
text: ON/OFF

## LORA SX1278
designator U?
footprint SX1278
pins: 1 GND, 2 MISO, 3 MOSI, 4 SCK, 5 NSS, 6 RESET, 7 DIO5, 8 GND, 9 ANT, 10 GND, 11 DIO3, 12 DIO4, 13 3.3V, 14 DIO0, 15 DIO1, 16 DIO2

## LORA SX1278 RA 01
designator U?
LORA SX1278 RA 01
footprint Ra 01 (SX1278 Lora Ra-01 AI-Thinker Mạch Thu Phát RF 433MHz 10Km-DIP)
footprint RA 01_V2
pins: 1 ANT, 2 GND, 3 VCC, 4 RST, 5 DIO0, 6 DIO1, 7 DIO2, 8 DIO3, 9 GND, 10 DIO4, 11 DIO5, 12 SCK, 13 MISO, 14 MOSI, 15 NSS, 16 GND

## Mach nap ESP
designator M?
ComponentLink1Description: Datasheet; ComponentLink1URL: https://linhkienthuduc.com/san-pham/usb-uart-ch340-kiem-mach-nap-esp32-esp8266-cong-type-c-v1/
footprint MACH NAP ESP
pins: 1 GPIO0, 2 RX, 3 TX, 4 RST, 5 GND, 6 5V

## MAX232
designator U?
footprint DIP16 (16 PIN, W 300mil, Pin to pin 100mil)
pins: 1 C1+, 2 V+, 3 C1-, 4 C2+, 5 C2-, 6 V-, 7 ~{T2OUT}, 8 R2IN, 9 ~{R2OUT}, 10 T2IN, 11 T1IN, 12 ~{R1OUT}, 13 R1IN, 14 ~{T1OUT}, 15 GND, 16 VCC

## MAX232ACPE
designator U?
footprint DIP16 (16 PIN, W 300mil, Pin to pin 100mil)
pins: 1 C1+, 2 VDD, 3 C1-, 4 C2+, 5 C2-, 6 VEE, 7 T2OUT (out), 8 R2IN (in), 9 R2OUT (out), 10 T2IN (in), 11 T1IN (in), 12 R1OUT (out), 13 R1IN (in), 14 T1OUT (out), 15 GND, 16 VCC

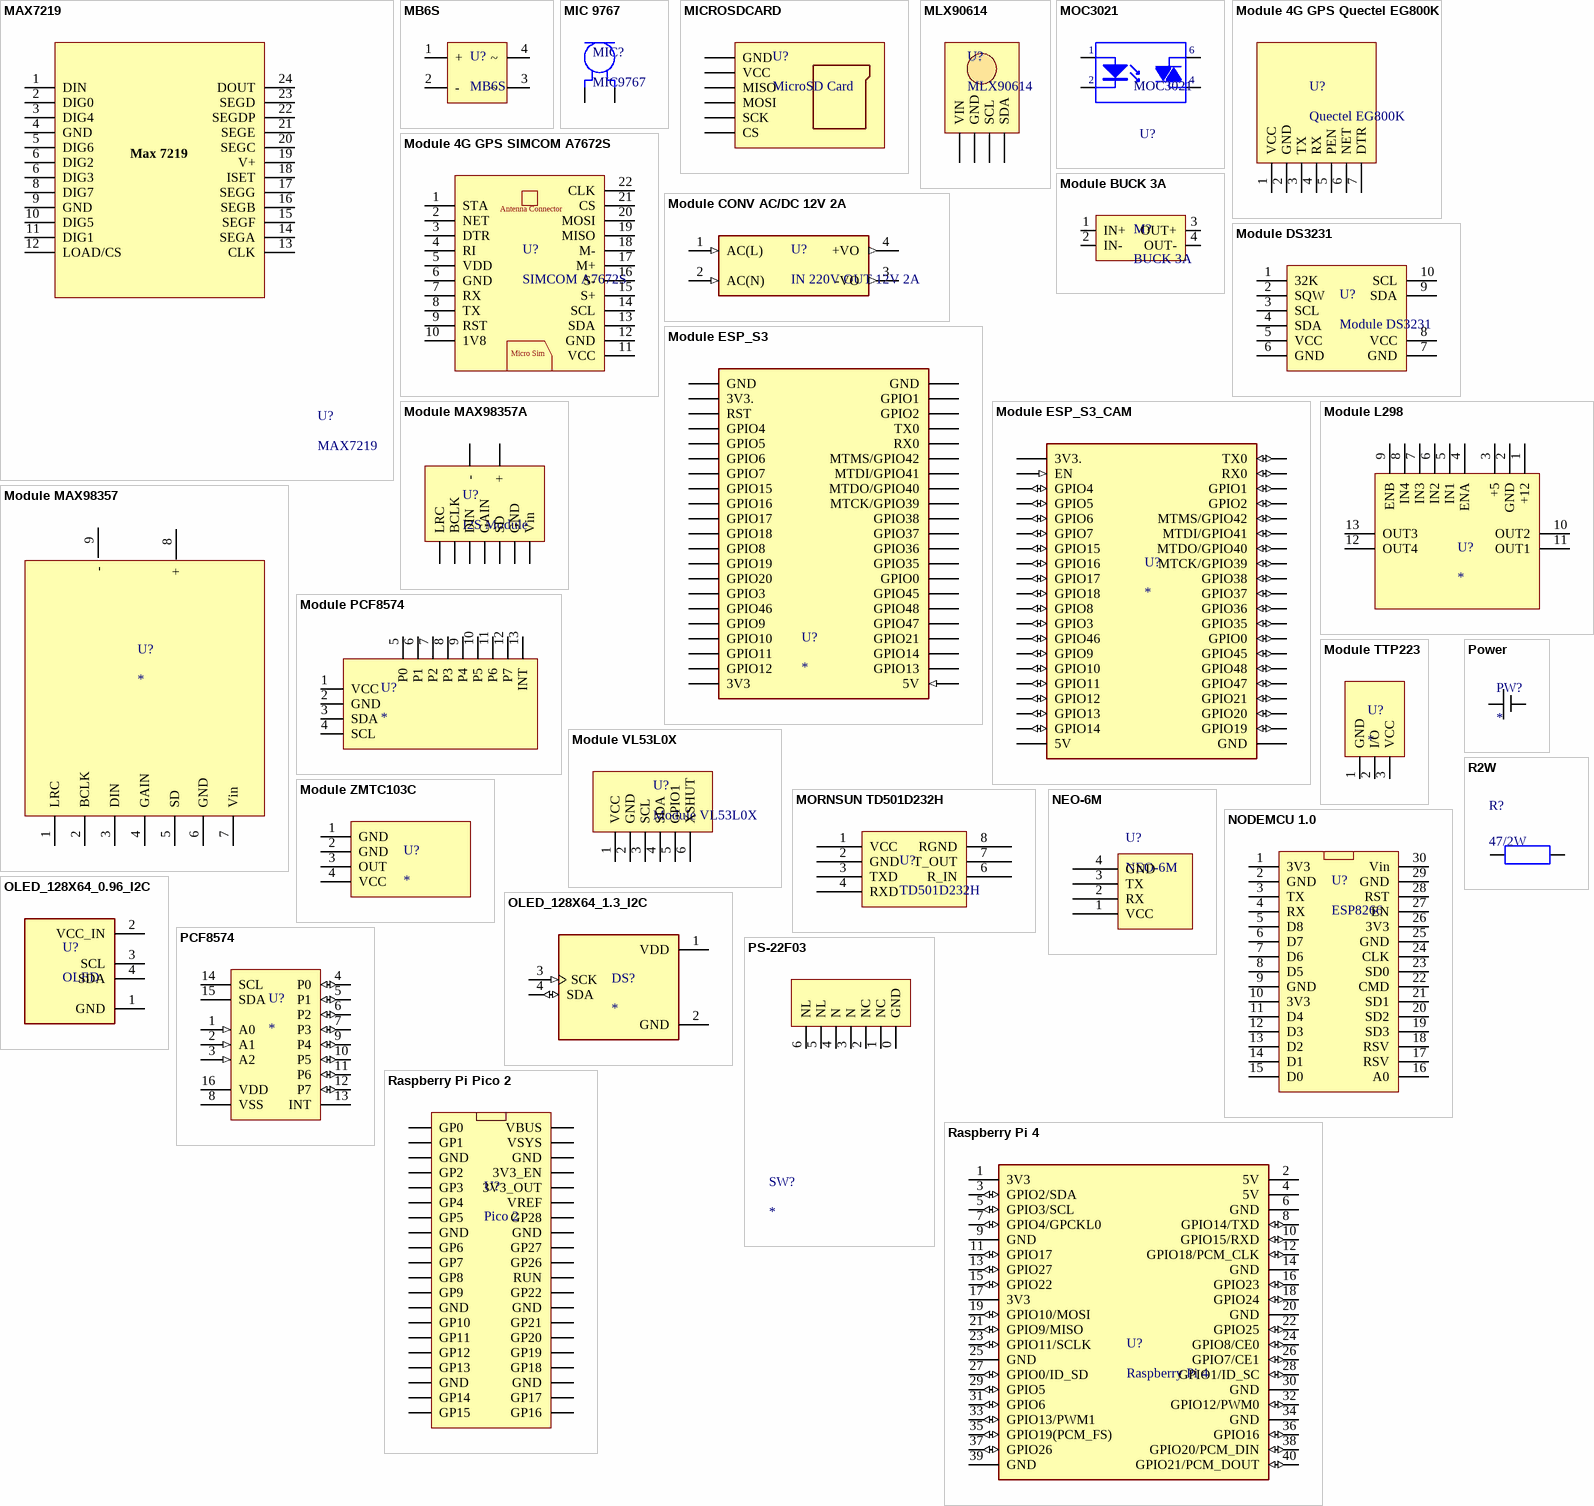
[diagram p3: symbols MAX7219 to Raspberry Pi Pico 2]

## MAX7219
designator U?
https://www.alldatasheet.vn/datasheet-pdf/view/464696/MAXIM/MAX7219.html
footprint DIP24
footprint SOP24
pins: 1 DIN, 2 DIG0, 3 DIG4, 4 GND, 5 DIG6, 6 DIG2, 6 DIG3, 8 DIG7, 9 GND, 10 DIG5, 11 DIG1, 12 LOAD/CS, 13 CLK, 14 SEGA, 15 SEGF, 16 SEGB, 17 SEGG, 18 ISET, 19 V+, 20 SEGC, 21 SEGE, 22 SEGDP, 23 SEGD, 24 DOUT
text: Max 7219

## MB6S
designator U?
Bridge Rectifier
footprint TO269AA
pins: 1 +, 2 -, 3 ~, 4 ~

## MIC 9767
designator MIC?, comment MIC9767
Microphone 9767 9.7x6.7mm; Pin distance: 2.54mm
footprint MICRONPHONE 9767
pins: 1 VCC (power), 2 GND (power)

## MICROSDCARD
designator U?, comment MicroSD Card
pins: 1 GND, 2 VCC, 3 MISO, 4 MOSI, 5 SCK, 6 CS

## MLX90614
designator U?
Cam bien nhiet do hong ngoai
pins: 1 VIN, 2 GND, 3 SCL, 4 SDA

## MOC3021
designator U?
Single Opto; Value: MOC3021
footprint DIP6
footprint SO6
pins: 1 A "Anode", 2 K "Cathode", 4 E "Emitter", 6 C "Collector"

## Module 4G GPS Quectel EG800K
designator U?, comment Quectel EG800K
Module 4G GPS Quectel EG800K
footprint Module 4G GPS Quectel EG800K
pins: 1 VCC, 2 GND, 3 TX, 4 RX, 5 PEN, 6 NET, 7 DTR

## Module 4G GPS SIMCOM A7672S
designator U?, comment SIMCOM A7672S
Module 4G GPS SIMCOM A7672S
footprint Module 4G A7672S
pins: 1 STA, 2 NET, 3 DTR, 4 RI, 5 VDD, 6 GND, 7 RX, 8 TX, 9 RST, 10 1V8, 11 VCC, 12 GND, 13 SDA, 14 SCL, 15 S+, 16 S-, 17 M+, 18 M-, 19 MISO, 20 MOSI, 21 CS, 22 CLK
text: Antenna Connector; Micro Sim

## Module BUCK 3A
designator M?, comment BUCK 3A
Module ha ap 3A MP14820S MP1584 DSN-MINI-360; Input Voltage: 4.75-23V; Output Voltage: 1-17V
footprint BUCK 3A 17x11x4mm (DSN-MINI-360)
pins: 1 IN+, 2 IN-, 3 OUT+, 4 OUT-

## Module CONV AC/DC 12V 2A
designator U?, comment IN 220V OUT 12V 2A
footprint MODULE CONV AC/DC 12V 2A (IN: AC 85 ~ 265v 50 / 60HZ / OUT: DC12V ( ± 0,2V ))
pins: 1 AC(L) (in), 2 AC(N) (in), 3 -VO (out), 4 +VO (out)

## Module DS3231
designator U?
footprint MODULE_DS3231
footprint MODULE_DS3231_Vertical
pins: 1 32K, 2 SQW, 3 SCL, 4 SDA, 5 VCC, 6 GND, 7 GND, 8 VCC, 9 SDA, 10 SCL

## Module ESP_S3
designator U?
footprint MODULE ESP32 S3 (N16P8-Type_C)
pins: J1_1 GND (power), J1_2 3V3. (power), J1_3 RST, J1_4 GPIO4, J1_5 GPIO5, J1_6 GPIO6, J1_7 GPIO7, J1_8 GPIO15, J1_9 GPIO16, J1_10 GPIO17, J1_11 GPIO18, J1_12 GPIO8, J1_13 GPIO19, J1_14 GPIO20, J1_15 GPIO3, J1_16 GPIO46, J1_17 GPIO9, J1_18 GPIO10, J1_19 GPIO11, J1_20 GPIO12, J1_21 3V3 (power), J3_1 GND (power), J3_2 GPIO1, J3_3 GPIO2, J3_4 TX0, J3_5 RX0, J3_6 MTMS/GPIO42, J3_7 MTDI/GPIO41, J3_8 MTDO/GPIO40, J3_9 MTCK/GPIO39, J3_10 GPIO38, J3_11 GPIO37, J3_12 GPIO36, J3_13 GPIO35, J3_14 GPIO0, J3_15 GPIO45, J3_16 GPIO48, J3_17 GPIO47, J3_18 GPIO21, J3_19 GPIO14, J3_20 GPIO13, J3_21 5V (in)

## Module ESP_S3_CAM
designator U?
N16R8-WROOM
footprint MODULE ESP32_S3_CAM
pins: J1_2 3V3. (power), J1_3 EN (in), J1_4 GPIO4 (io), J1_5 GPIO5 (io), J1_6 GPIO6 (io), J1_7 GPIO7 (io), J1_8 GPIO15 (io), J1_9 GPIO16 (io), J1_10 GPIO17 (io), J1_11 GPIO18 (io), J1_12 GPIO8 (io), J1_13 GPIO3 (io), J1_14 GPIO46 (io), J1_15 GPIO9 (io), J1_16 GPIO10 (io), J1_17 GPIO11 (io), J1_18 GPIO12 (io), J1_19 GPIO13 (io), J1_20 GPIO14 (io), J1_21 5V (power), J3_2 TX0 (io), J3_3 RX0 (io), J3_4 GPIO1 (io), J3_5 GPIO2 (io), J3_6 MTMS/GPIO42 (io), J3_7 MTDI/GPIO41 (io), J3_8 MTDO/GPIO40 (io), J3_9 MTCK/GPIO39 (io), J3_10 GPIO38 (io), J3_11 GPIO37 (io), J3_12 GPIO36 (io), J3_13 GPIO35 (io), J3_14 GPIO0 (io), J3_15 GPIO45 (io), J3_16 GPIO48 (io), J3_17 GPIO47 (io), J3_18 GPIO21 (io), J3_19 GPIO20 (io), J3_20 GPIO19 (io), J3_21 GND (power)

## Module L298
designator U?
pins: 1 +12, 2 GND, 3 +5, 4 ENA, 5 IN1, 6 IN2, 7 IN3, 8 IN4, 9 ENB, 10 OUT2, 11 OUT1, 12 OUT4, 13 OUT3

## Module MAX98357
designator U?
Tiny, Low-Cost, PCM Class D Amplifier with Class AB Performance; MF: Analog Devices; MP: MAX98357AETE+T; SnapEDA_Link: https://www.snapeda.com/parts/MAX98357AETE+T/Analog+Devices/view-part/?ref=snap; Package: TQFN-16 Maxim; Value: *; Check_prices: https://www.snapeda.com/parts/MAX98357AETE+T/Analog+Devices/view-part/?ref=eda
footprint Module MAX98357A
pins: 1 LRC, 2 BCLK, 3 DIN, 4 GAIN, 5 SD, 6 GND, 7 Vin, 8 +, 9 -

## Module MAX98357A
designator U?, comment I2S Module
Module MAX98357A I2S
footprint Module MAX98357A
pins: 1 LRC, 2 BCLK, 3 DIN, 4 GAIN, 5 SD, 6 GND, 7 Vin, 8 +, 9 -

## Module PCF8574
designator U?
pins: 1 VCC, 2 GND, 3 SDA, 4 SCL, 5 P0, 6 P1, 7 P2, 8 P3, 9 P4, 10 P5, 11 P6, 12 P7, 13 INT

## Module TTP223
designator U?
footprint Module TTP223
pins: 1 GND, 2 I/O, 3 VCC

## Module VL53L0X
designator U?
footprint Module VL53L0X
pins: 1 VCC, 2 GND, 3 SCL, 4 SDA, 5 GPIO1, 6 XSHUT

## Module ZMTC103C
designator U?
Module ZMTC103C-5A-1 Phase
footprint Module ZMCT103C (Current Sensor 5A AC – 1 phaseplpl)
pins: 1 GND, 2 GND, 3 OUT, 4 VCC

## MORNSUN TD501D232H
designator U?, comment TD501D232H
VN_link: https://linhkienhdshop.com/products/mach-cach-ly-rs232-td501d232h-arduino-stm32
footprint MORNSUN TD501D232H
pins: 1 VCC (power), 2 GND, 3 TXD (hiz), 4 RXD (hiz), 6 R_IN (hiz), 7 T_OUT (hiz), 8 RGND (hiz)

## NEO-6M
designator U?
GPS, 3~5V, Baud: 9600
footprint MODULE GPS NEO-6M (23x30mm, Baud: 9600)
pins: 1 VCC, 2 RX, 3 TX, 4 GND

## NODEMCU 1.0
designator U?, comment ESP8266
ESP8266 nodemcu 1.0
footprint NODE MCU CH340
footprint NODE MCU CP2102
pins: 1 3V3, 2 GND, 3 TX, 4 RX, 5 D8, 6 D7, 7 D6, 8 D5, 9 GND, 10 3V3, 11 D4, 12 D3, 13 D2, 14 D1, 15 D0, 16 A0, 17 RSV, 18 RSV, 19 SD3, 20 SD2, 21 SD1, 22 CMD, 23 SD0, 24 CLK, 25 GND, 26 3V3, 27 EN, 28 RST, 29 GND, 30 Vin

## OLED_128X64_0.96_I2C
designator U?, comment OLED
footprint LCD_OLED_128X64_0.96 (I2C-)
pins: 1 GND (power), 2 VCC_IN (power), 3 SCL, 4 SDA

## OLED_128X64_1.3_I2C
designator DS?
Non-Touch Graphic LCD Display Module Transmissive White OLED, Monochrome I2C 1.3 (33.02mm) 128 x 64; MF: UNIVERSAL-SOLDER Electronics Ltd; MP: OLED 128x64 1.3&quot; I2C; SnapEDA_Link: https://www.snapeda.com/parts/OLED%20128x64%201.3%22%20I2C/UNIVERSAL-SOLDER+Electronics+Ltd/view-part/?ref=snap; Package: None; Value: *; Check_prices: https://www.snapeda.com/parts/OLED%20128x64%201.3%22%20I2C/UNIVERSAL-SOLDER+Electronics+Ltd/view-part/?ref=eda
footprint LCD_OLED_128X64_1.3_I2C - duplicate
pins: 1 VDD (power), 2 GND (power), 3 SCK (in), 4 SDA (io)

## PCF8574
designator U?
footprint DIP16 (16 PIN, W 300mil, Pin to pin 100mil)
pins: 1 A0 (in), 2 A1 (in), 3 A2 (in), 4 P0 (io), 5 P1 (io), 6 P2 (io), 7 P3 (io), 8 VSS, 9 P4 (io), 10 P5 (io), 11 P6 (io), 12 P7 (io), 13 INT, 14 SCL, 15 SDA, 16 VDD

## Power
designator PW?
footprint PIN
pins: 1 +, 2 -

## PS-22F03
designator SW?
footprint PS-22F03
pins: 0 GND, 1 NC, 2 NC, 3 N, 4 N, 5 NL, 6 NL

## R2W
designator R?, comment 47/2W
Resistor 2W; Value: R2W - 47
footprint R2W (R2W, 2 pin, 700mil)
footprint R2WD (R2W, 2 pin, 700mil)
pins: 1, 2

## Raspberry Pi 4
designator U?
pins: 1 3V3 (power), 2 5V (power), 3 GPIO2/SDA (io), 4 5V (power), 5 GPIO3/SCL (io), 6 GND (power), 7 GPIO4/GPCKL0 (io), 8 GPIO14/TXD (io), 9 GND (power), 10 GPIO15/RXD (io), 11 GPIO17 (io), 12 GPIO18/PCM_CLK (io), 13 GPIO27 (io), 14 GND (power), 15 GPIO22 (io), 16 GPIO23 (io), 17 3V3 (power), 18 GPIO24 (io), 19 GPIO10/MOSI (io), 20 GND (power), 21 GPIO9/MISO (io), 22 GPIO25 (io), 23 GPIO11/SCLK (io), 24 GPIO8/CE0 (io), 25 GND (power), 26 GPIO7/CE1 (io), 27 GPIO0/ID_SD (io), 28 GPIO1/ID_SC (io), 29 GPIO5 (io), 30 GND (power), 31 GPIO6 (io), 32 GPIO12/PWM0 (io), 33 GPIO13/PWM1 (io), 34 GND (power), 35 GPIO19(PCM_FS) (io), 36 GPIO16 (io), 37 GPIO26 (io), 38 GPIO20/PCM_DIN (io), 39 GND (power), 40 GPIO21/PCM_DOUT (io)

## Raspberry Pi Pico 2
designator U?, comment Pico 2
Raspberry Pi Pico 2
footprint RASPBERRY_PI_PICO
footprint RASPBERRY_PI_PICO_SMD
pins: 1 GP0, 2 GP1, 3 GND, 4 GP2, 5 GP3, 6 GP4, 7 GP5, 8 GND, 9 GP6, 10 GP7, 11 GP8, 12 GP9, 13 GND, 14 GP10, 15 GP11, 16 GP12, 17 GP13, 18 GND, 19 GP14, 20 GP15, 21 GP16, 22 GP17, 23 GND, 24 GP18, 25 GP19, 26 GP20, 27 GP21, 28 GND, 29 GP22, 30 RUN, 31 GP26, 32 GP27, 33 GND, 34 GP28, 35 VREF, 36 3V3_OUT, 37 3V3_EN, 38 GND, 39 VSYS, 40 VBUS

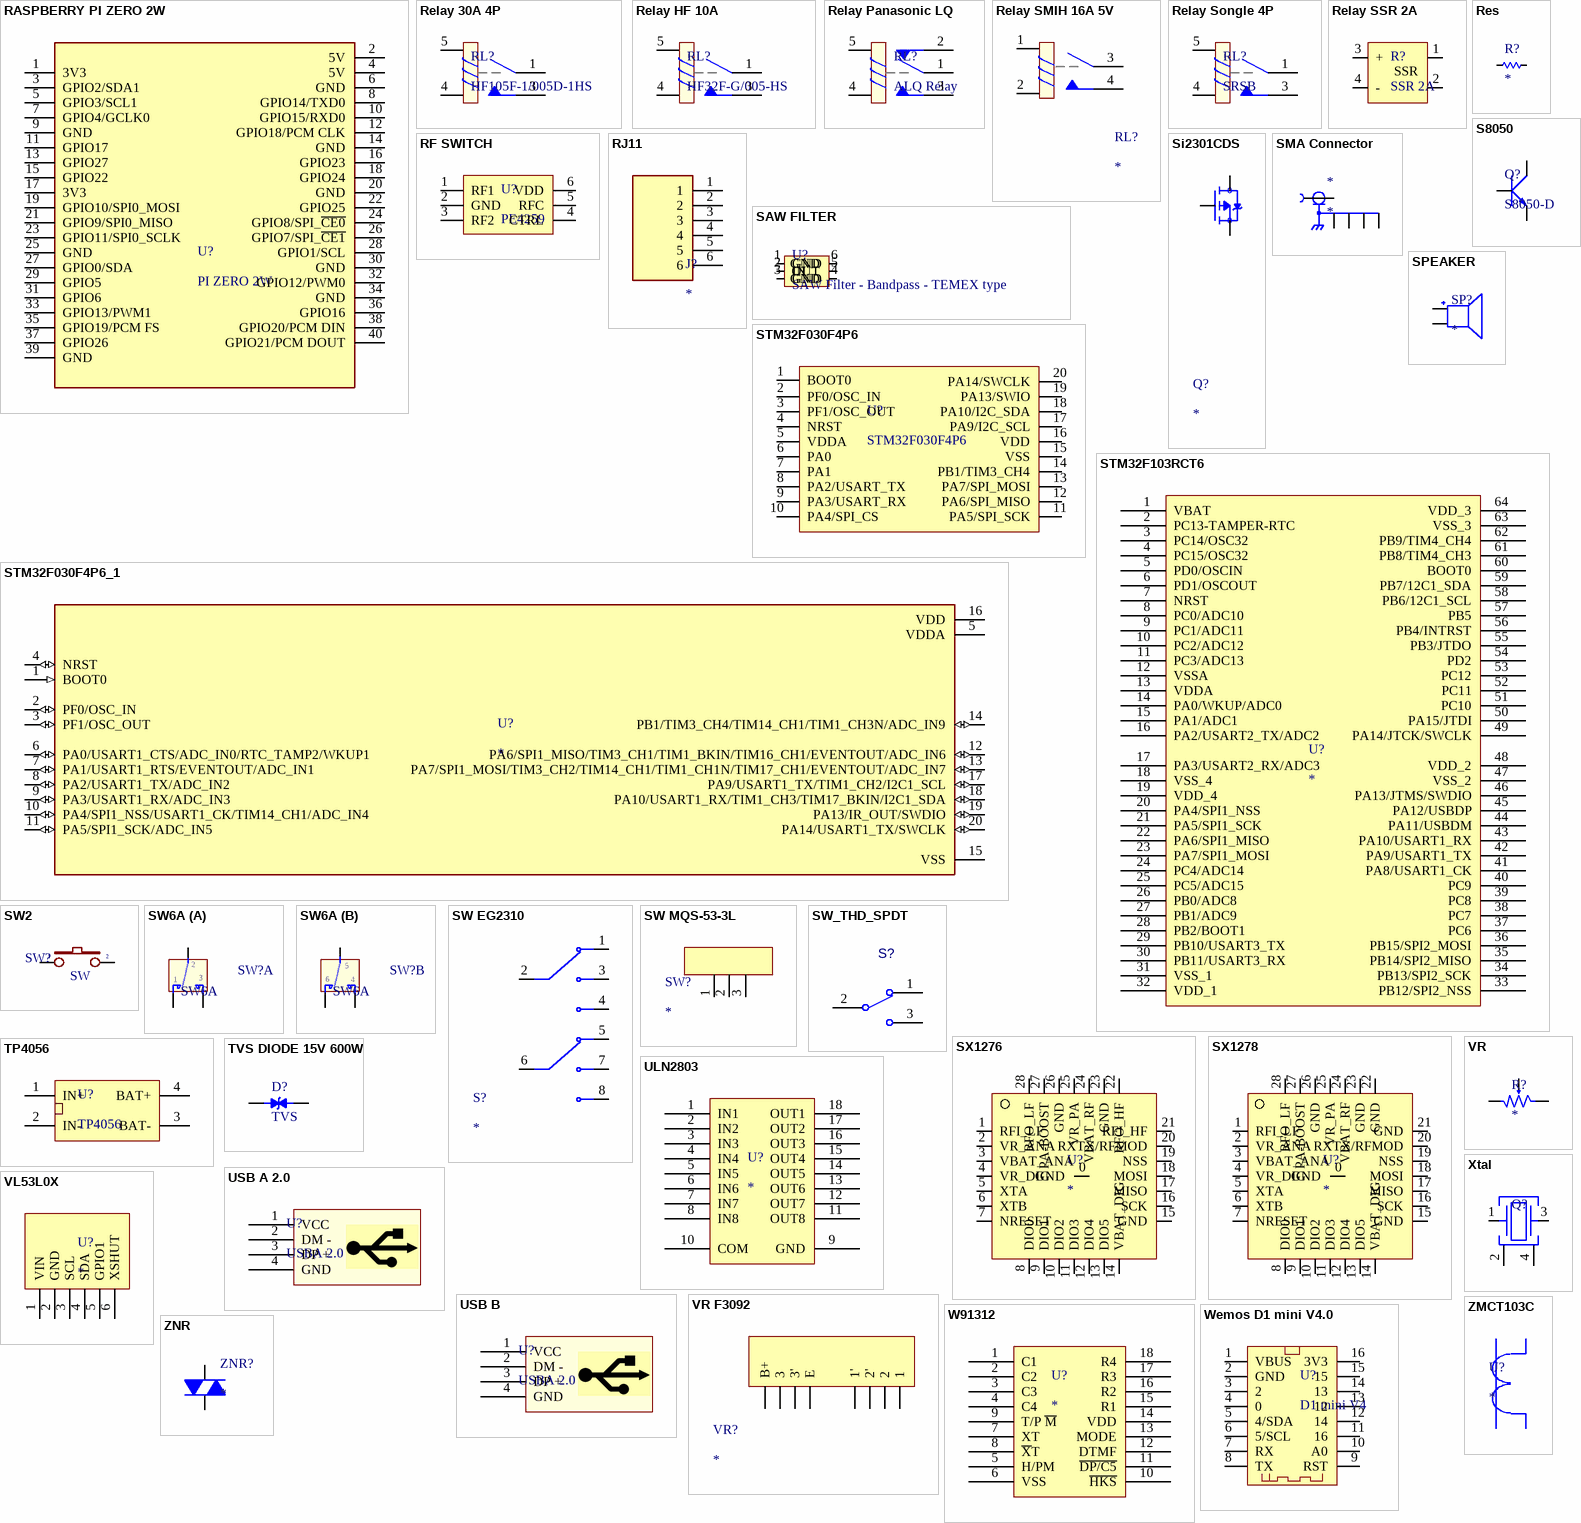
[diagram p4: symbols RASPBERRY PI ZERO 2W to ZNR]

## RASPBERRY PI ZERO 2W
designator U?, comment PI ZERO 2W
RASPBERRY PI ZERO 2W; SnapEDA_Link: https://www.snapeda.com/parts/RASPBERRY%20PI%20ZERO%202%20W/Raspberry+Pi/view-part/?ref=snap; Package: None; Value: *; MF: Raspberry Pi; MP: RASPBERRY PI ZERO 2 W; Check_prices: https://www.snapeda.com/parts/RASPBERRY%20PI%20ZERO%202%20W/Raspberry+Pi/view-part/?ref=eda
footprint RASPBERRY PI ZERO 2W
pins: 1 3V3, 2 5V, 3 GPIO2/SDA1, 4 5V, 5 GPIO3/SCL1, 6 GND, 7 GPIO4/GCLK0, 8 GPIO14/TXD0, 9 GND, 10 GPIO15/RXD0, 11 GPIO17, 12 GPIO18/PCM CLK, 13 GPIO27, 14 GND, 15 GPIO22, 16 GPIO23, 17 3V3, 18 GPIO24, 19 GPIO10/SPI0_MOSI, 20 GND, 21 GPIO9/SPI0_MISO, 22 GPIO25, 23 GPIO11/SPI0_SCLK, 24 GPIO8/SPI_~{CE0}, 25 GND, 26 GPIO7/SPI_~{CE1}, 27 GPIO0/SDA, 28 GPIO1/SCL, 29 GPIO5, 30 GND, 31 GPIO6, 32 GPIO12/PWM0, 33 GPIO13/PWM1, 34 GND, 35 GPIO19/PCM FS, 36 GPIO16, 37 GPIO26, 38 GPIO20/PCM DIN, 39 GND, 40 GPIO21/PCM DOUT

## Relay 30A 4P
designator RL?, comment HF105F-1/005D-1HS
Relay hongfa 30A 4P HF105F-1/005D-1HS
footprint Relay-HF-30A-Form-A
pins: 1, 3, 4, 5

## Relay HF 10A
designator RL?, comment HF32F-G/005-HS
Relay hongfa 10A 4P HF32F-G/005-HS; ComponentLink1Description: Datasheet; ComponentLink1URL: https://pdf1.alldatasheet.com/datasheet-pdf/view/312455/HONGFA/HF32F-G/005-HXXX.html
footprint HF32F-G (Hongfa 10A 4 pins)
pins: 1, 3, 4, 5

## Relay Panasonic LQ
designator RL?, comment ALQ Relay
ALQ Relay 10A; ComponentLink1Description: Datasheet; ComponentLink1URL: https://api.pim.na.industrial.panasonic.com/file_stream/main/fileversion/306
footprint Relay-LQ-form-C
pins: 1, 2, 3, 4, 5

## Relay SMIH 16A 5V
designator RL?
SMIH-5VDC-SL-A Relay 5V 16A 6 Chân
footprint Relay SMIH 16A 5V
pins: 1 5, 2, 3, 4

## Relay Songle 4P
designator RL?, comment SRSB
Relay Songle 10A 4P SRSB-05VDC-SL-A; ComponentLink1Description: Datasheet; ComponentLink1URL: https://pdf1.alldatasheet.com/datasheet-pdf/view/1134322/SONGLERELAY/SRSB-5VDC-SL-A.html
footprint Songle SRSB (Relay Songle 4 pins)
pins: 1, 3, 4, 5

## Relay SSR 2A
designator R?, comment SSR 2A
Relay SSR 2A G3MB-202P
footprint G3MB-202P (Relay SSR)
pins: 1, 2, 3 +, 4 -
text: SSR

## Res
designator R?
footprint RES-1/4W
footprint R2W (R2W, 2 pin, 700mil)
footprint R2WD (R2W, 2 pin, 150mil)
footprint RES-1/4WD
footprint RES-1/2W
footprint RES-1/4W-SMALL
footprint RES-1W
footprint RES-1WD
footprint RES-1/2W  5%
footprint RES-1/2W  1%
pins: 1, 2

## RF SWITCH
designator U?, comment PE4259
footprint PE4259 (RF Switch)
pins: 1 RF1, 2 GND, 3 RF2, 4 CTRL, 5 RFC, 6 VDD

## RJ11
designator J?
RJ11 6P6C
footprint RJ11 6P6C
pins: 1, 2, 3, 4, 5, 6

## S8050
designator Q?, comment S8050-D
S8050-D 25V 1.5A NPN 40V 0.5A NPN; ComponentLink1Description: Datasheet; ComponentLink1URL: https://www.alldatasheet.com/datasheet-pdf/view/433163/MCC/S8050-D.html; ComponentLink2Description: Datasheet2; ComponentLink2URL: https://www.onsemi.com/pdf/datasheet/ss8050-d.pdf
footprint TO92-EBC (TO-92)
footprint SOT23-321
pins: 1 E, 2 C, 3 B

## SAW FILTER
designator U?, comment SAW Filter - Bandpass - TEMEX type
footprint DCC6C (SAW FILTER  3.0 x 3.0 mm)
pins: 1 GND, 2 IN, 3 GND, 4 GND, 5 OUT, 6 GND

## Si2301CDS
designator Q?
SOT23/236-Chanel P - D_S
footprint SOT23-132
pins: 1 G, 2 S, 3 D

## SMA Connector
designator *
footprint SMA-JACK
pins: 1, G1 (power), G2 (power), G3 (power), G4 (power)

## SPEAKER
designator SP?
Buzzer
footprint BUZZER 7.6MM
pins: 1, 2

## STM32F030F4P6
designator U?
pins: 1 BOOT0, 2 PF0/OSC_IN, 3 PF1/OSC_OUT, 4 NRST, 5 VDDA, 6 PA0, 7 PA1, 8 PA2/USART_TX, 9 PA3/USART_RX, 10 PA4/SPI_CS, 11 PA5/SPI_SCK, 12 PA6/SPI_MISO, 13 PA7/SPI_MOSI, 14 PB1/TIM3_CH4, 15 VSS, 16 VDD, 17 PA9/I2C_SCL, 18 PA10/I2C_SDA, 19 PA13/SWIO, 20 PA14/SWCLK

## STM32F030F4P6_1
designator U?
ARMÂ® CortexÂ®-M0 STM32F0 Microcontroller IC 32-Bit Single-Core 48MHz 16KB (16K x 8) FLASH; MF: STMicroelectronics; MP: STM32F030F4P6; SnapEDA_Link: https://www.snapeda.com/parts/STM32F030F4P6/STMicroelectronics/view-part/?ref=snap; Package: TSSOP-20 STMicroelectronics; Value: *; Check_prices: https://www.snapeda.com/parts/STM32F030F4P6/STMicroelectronics/view-part/?ref=eda
footprint SOP65P640X120-20N
pins: 1 BOOT0 (in), 2 PF0/OSC_IN (io), 3 PF1/OSC_OUT (io), 4 NRST (io), 5 VDDA (power), 6 PA0/USART1_CTS/ADC_IN0/RTC_TAMP2/WKUP1 (io), 7 PA1/USART1_RTS/EVENTOUT/ADC_IN1 (io), 8 PA2/USART1_TX/ADC_IN2 (io), 9 PA3/USART1_RX/ADC_IN3 (io), 10 PA4/SPI1_NSS/USART1_CK/TIM14_CH1/ADC_IN4 (io), 11 PA5/SPI1_SCK/ADC_IN5 (io), 12 PA6/SPI1_MISO/TIM3_CH1/TIM1_BKIN/TIM16_CH1/EVENTOUT/ADC_IN6 (io), 13 PA7/SPI1_MOSI/TIM3_CH2/TIM14_CH1/TIM1_CH1N/TIM17_CH1/EVENTOUT/ADC_IN7 (io), 14 PB1/TIM3_CH4/TIM14_CH1/TIM1_CH3N/ADC_IN9 (io), 15 VSS (power), 16 VDD (power), 17 PA9/USART1_TX/TIM1_CH2/I2C1_SCL (io), 18 PA10/USART1_RX/TIM1_CH3/TIM17_BKIN/I2C1_SDA (io), 19 PA13/IR_OUT/SWDIO (io), 20 PA14/USART1_TX/SWCLK (io)

## STM32F103RCT6
designator U?
pins: 1 VBAT, 2 PC13-TAMPER-RTC, 3 PC14/OSC32, 4 PC15/OSC32, 5 PD0/OSCIN, 6 PD1/OSCOUT, 7 NRST, 8 PC0/ADC10, 9 PC1/ADC11, 10 PC2/ADC12, 11 PC3/ADC13, 12 VSSA, 13 VDDA, 14 PA0/WKUP/ADC0, 15 PA1/ADC1, 16 PA2/USART2_TX/ADC2, 17 PA3/USART2_RX/ADC3, 18 VSS_4, 19 VDD_4, 20 PA4/SPI1_NSS, 21 PA5/SPI1_SCK, 22 PA6/SPI1_MISO, 23 PA7/SPI1_MOSI, 24 PC4/ADC14, 25 PC5/ADC15, 26 PB0/ADC8, 27 PB1/ADC9, 28 PB2/BOOT1, 29 PB10/USART3_TX, 30 PB11/USART3_RX, 31 VSS_1, 32 VDD_1, 33 PB12/SPI2_NSS, 34 PB13/SPI2_SCK, 35 PB14/SPI2_MISO, 36 PB15/SPI2_MOSI, 37 РС6, 38 PC7, 39 PC8, 40 PC9, 41 PA8/USART1_CK, 42 PA9/USART1_TX, 43 PA10/USART1_RX, 44 PA11/USBDM, 45 PA12/USBDP, 46 PA13/JTMS/SWDIO, 47 VSS_2, 48 VDD_2, 49 PA14/JTCK/SWCLK, 50 PA15/JTDI, 51 PC10, 52 PC11, 53 PC12, 54 PD2, 55 PB3/JTDO, 56 PB4/INTRST, 57 PB5, 58 PB6/12C1_SCL, 59 PB7/12C1_SDA, 60 BOOT0, 61 PB8/TIM4_CH3, 62 PB9/TIM4_CH4, 63 VSS_3, 64 VDD_3

## SW2
designator SW?, comment SW
Switch button 2 pin; Value: SW chip 2 pin
footprint SW2_D (SW button 2pin, 300x 300 x 250 mil)
footprint SW2 6x6MM Circle (SW button 2pin, 250x 250 mil 6x6mm)
footprint SW2 6x6mm (SW button 2pin, 250x 250 mil)
footprint G73 SMD 3x6x2.5MM 2PIN (Tactile Tact Push Button Micro Switch)
pins: 1, 2

## SW6A
designator SW?
SW-DTDP - 6 Pin; Value: SW6
footprint SWITCH DPDT 7x7mm 2mm
footprint SWITCH DPDT 8x8mm 2.5mm
part A pins: 1, 2, 3
part B pins: 4, 5, 6

## SW EG2310
designator S?
Slide Switch DP3T Through Hole, Right Angle; MF: E-Switch; MP: EG2310; Check_prices: https://www.snapeda.com/parts/EG2310/E-Switch/view-part/?ref=eda; SnapEDA_Link: https://www.snapeda.com/parts/EG2310/E-Switch/view-part/?ref=snap; Availability: In Stock; Purchase-URL: https://pricing.snapeda.com/search/part/EG2310/?ref=eda; Value: *; Price: None; Package: None
footprint SW_EG2310
pins: 1, 2, 3, 4, 5, 6, 7, 8

## SW MQS-53-3L
designator SW?
footprint SW KW10-Z1P
pins: 1, 2 17, 3 16

## SW_THD_SPDT
designator S?
Switch THD vertical toggle SPDT; Manufacturer 1: TE Connectivity; Manufacturer Part Number 1: SLS121PC04; Contact Rating @ Voltage: 0.25A @ 125VAC; SCDType: spec; Circuit: SPDT; Mounting Type: PCB mount; Supplier 1: Digi-Key; Supplier Part Number 1: 450-1598-ND
footprint SWITCH SPDT 1P2T 2mm (TE Connectivity SLS121PC04 SPDT slider)
footprint SWITCH SPDT 1P2T 3mm
pins: 1, 2, 3

## SX1276
designator U?
footprint SX127x (SX127x- Low Power Integrated UHF Transceiver with loRa Modem)
pins: 0 GND, 1 RFI_LF, 2 VR_ANA, 3 VBAT_ANA, 4 VR_DIG, 5 XTA, 6 XTB, 7 NRESET, 8 DIO0, 9 DIO1, 10 DIO2, 11 DIO3, 12 DIO4, 13 DIO5, 14 VBAT_DIG, 15 GND, 16 SCK, 17 MISO, 18 MOSI, 19 NSS, 20 RXTX/RFMOD, 21 RFI_HF, 22 RFO_HF, 23 GND, 24 VBAT_RF, 25 VR_PA, 26 GND, 27 PA-BOOST, 28 RFO_LF

## SX1278
designator U?
footprint SX127x (SX127x- Low Power Integrated UHF Transceiver with loRa Modem)
pins: 0 GND, 1 RFI_LF, 2 VR_ANA, 3 VBAT_ANA, 4 VR_DIG, 5 XTA, 6 XTB, 7 NRESET, 8 DIO0, 9 DIO1, 10 DIO2, 11 DIO3, 12 DIO4, 13 DIO5, 14 VBAT_DIG, 15 GND, 16 SCK, 17 MISO, 18 MOSI, 19 NSS, 20 RXTX/RFMOD, 21 GND, 22 GND, 23 GND, 24 VBAT_RF, 25 VR_PA, 26 GND, 27 PA-BOOST, 28 RFO_LF

## TP4056
designator U?
Module sac pin
pins: 1 IN+, 2 IN-, 3 BAT-, 4 BAT+

## TVS DIODE 15V 600W
designator D?, comment TVS
SMBJ15CA, 600W, 17.6V, 5%, Bidirectional, TVS; MF: Taiwan Semiconductor Corporation; SnapEDA_Link: https://www.snapeda.com/parts/SMBJ15CA/Taiwan+Semiconductor+Corporation/view-part/?ref=snap; Package: DO-214AA-2 Taiwan Semiconductor; MP: SMBJ15CA; Value: *; Purchase-URL: https://pricing.snapeda.com/search/part/SMBJ15CA/?ref=eda; Check_prices: https://www.snapeda.com/parts/SMBJ15CA/Taiwan+Semiconductor+Corporation/view-part/?ref=eda; Availability: In Stock; Price: None
footprint DO-214AA
pins: 1, 2

## ULN2803
designator U?
footprint DIP18 (18 PIN, W 300mil, Pin to pin 100mil)
pins: 1 IN1, 2 IN2, 3 IN3, 4 IN4, 5 IN5, 6 IN6, 7 IN7, 8 IN8, 9 GND, 10 COM, 11 OUT8, 12 OUT7, 13 OUT6, 14 OUT5, 15 OUT4, 16 OUT3, 17 OUT2, 18 OUT1

## USB A 2.0
designator U?, comment USBA 2.0
footprint USBA 2.0 CN DIP (THT, USB 2.0 A Connector, 4Pin, Body 15.8 x14.5mm)
footprint USBA 2.0 DN DIP
footprint USBA 2.0 DN SMD (For USB SMD)
footprint USBA 2.0 CD DIP
pins: 1 VCC, 2 DM -, 3 DP +, 4 GND

## USB B
designator U?, comment USBA 2.0
footprint USB B CD DIP
footprint USB B CN DIP
pins: 1 VCC, 2 DM -, 3 DP +, 4 GND

## VL53L0X
designator U?
footprint VL53L0X
pins: 1 VIN, 2 GND, 3 SCL, 4 SDA, 5 GPIO1, 6 XSHUT

## VR
designator R?
footprint VR-VCS (Volumn control single)
pins: 1, 2, 3

## VR F3092
designator VR?
footprint VR Thanh
pins: 1, 1', 2, 2', 3, 3', B+, E

## W91312
designator U?
footprint DIP18 (18 PIN, W 300mil, Pin to pin 100mil)
pins: 1 C1, 2 C2, 3 C3, 4 C4, 5 H/PM, 6 VSS, 7 XT, 8 ~{X}T, 9 T/P ~{M}, 10 ~{HKS}, 11 ~{DP/C5}, 12 DTMF, 13 MODE, 14 VDD, 15 R1, 16 R2, 17 R3, 18 R4

## Wemos D1 mini V4.0
designator U?, comment D1 mini V4
ESP8266 D1
footprint WEMOS D1 MINI V4
footprint WEMOS D1 MINI V4 USD
pins: 1 VBUS, 2 GND, 3 2, 4 0, 5 4/SDA, 6 5/SCL, 7 RX, 8 TX, 9 RST, 10 A0, 11 16, 12 14, 13 12, 14 13, 15, 16 3V3

## Xtal
designator Q?, comment Crystal Oscillator  (value not drawn)
Crystal Oscillator / SMD 3225 (3.2mm × 2.5mm × 1mm)
footprint Crystal oscillator (3225( 3.2x2.5mm) - 32mhz - 4pin)
pins: 1 EN, 2 GND, 3 OUT, 4  

## ZMCT103C
designator U?
footprint ZMCT103C (1000:1 - 0~5V)
pins: 1, 2

## ZNR
designator ZNR?
MOV; Pin distance: 7.62mm
footprint Cap 7.5mm
pins: 1 A, 2 K